# Altium schematic symbol library sch.SchLib: 422 symbols (part 2 of 3)
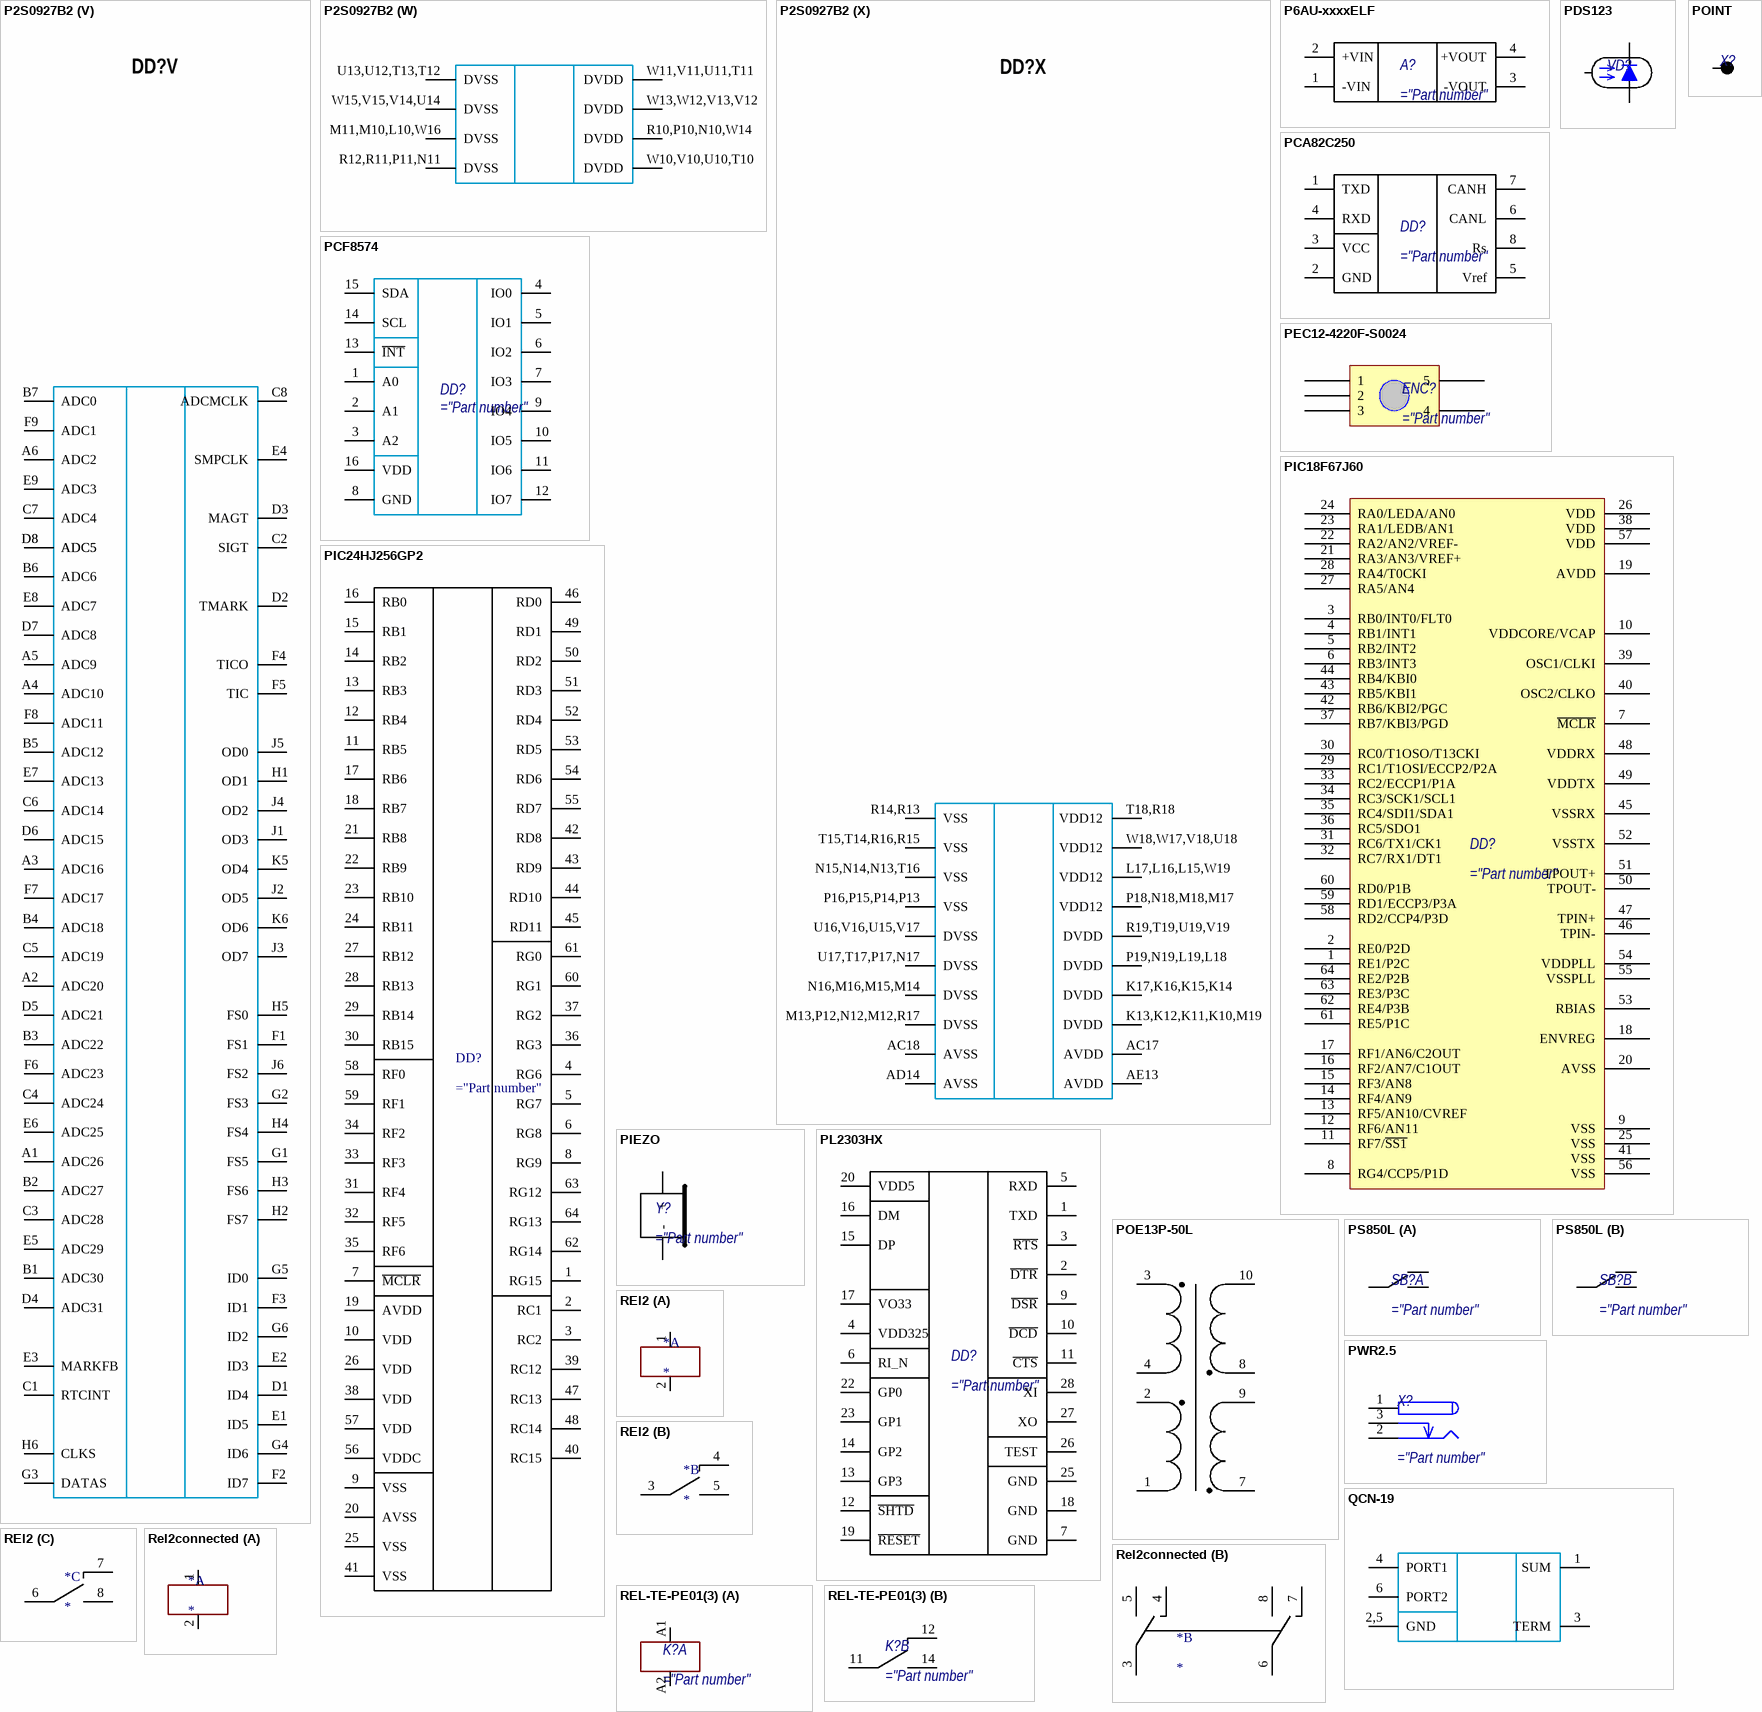
[diagram p35: symbols P2S0927B2 to REL-TE-PE01(3)]

## P2S0927B2
designator DD?
part A pins: AE16 TDO_M "8mA", AE17 ~{TRST_M} "=Soft Reset", AF17 TMS_M, AG16 TDI_M, AG17 TCK_M
part B pins: K28 TDI_S, L24 TDO_S "8mA", L25 TCK_S, L26 TMS_S, L27 ~{TRST_S} "=Soft Reset"
part C pins: A7 XI, A11 XO, A12 XI "12MHz", AH15 XI "10-40MHz", AH16 XO, B8 VDD_RTC, C9 PG, D9 XO, E12 VSS_RTC, F10 VSS_RTC, F11 VDD12_RTC, R24 ~{SRESET} "8mA", R26 ~{MRESET} "8mA", R27 BOOTEN_M, R28 BOOTEN_S, T25 TST, T26 BP_POR, T27 EXTI_M, T28 TST_MDDR, U26 ~{RST_EXT}, U27 CLOCK_EXT "8mA, 50/100/200 MHz", U28 EXTI_S
part D pins: AA23 D25 "8mA", AA24 D22 "8mA", AB23 D18 "8mA", AB24 D20 "8mA", AB25 D29 "8mA", AC19 A14 "8mA", AC20 ~{CS0} "8mA", AC21 ~{ST_CE1} "8mA", AC22 D15 "8mA", AC23 D6 "8mA", AC24 D13 "8mA", AC25 D21 "8mA", AC26 D24 "8mA", AC27 D31 "8mA", AD17 A2 "8mA", AD18 A8 "8mA", AD19 A18 "8mA", AD20 A22 "8mA", AD21 ~{CS1} "8mA", AD22 ~{ST_CE0} "8mA", AD23 D3 "8mA", AD24 DQM1 "8mA", AD25 D12 "8mA", AD26 D23 "8mA", AD27 D26 "8mA", AD28 D30 "8mA", AE18 A6 "8mA", AE19 A12 "8mA", AE20 A16 "8mA", AE21 ~{WE} "8mA", AE22 ~{RAS} "8mA", AE23 ~{ST_CE3} "8mA", AE24 D4 "8mA", AE25 D9 "8mA", AE26 DQM2 "8mA", AE27 D27 "8mA", AE28 D28 "8mA", AF18 A1 "8mA", AF19 A5 "8mA", AF20 A13 "8mA", AF21 A19 "8mA", AF22 A23 "8mA", AF23 CKE "8mA", AF24 D0 "8mA", AF25 D7 "8mA", AF26 D16 "8mA", AF27 D17 "8mA", AF28 DQM3 "8mA", AG18 A4 "8mA", AG19 A7 "8mA", AG20 A11 "8mA", AG21 A17 "8mA", AG22 A21 "8mA", AG23 ~{OE} "8mA", AG24 DQM0 "8mA", AG25 D2 "8mA", AG26 D8 "8mA", AG27 D11 "8mA", AG28 D19 "8mA", AH17 A0 "8mA", AH18 A3 "8mA", AH19 A9 "8mA", AH20 A10 "8mA", AH21 A15 "8mA", AH22 A20 "8mA", AH23 CLKOUT "8mA", AH24 ~{ST_CE2} "8mA", AH25 D1 "8mA", AH26 D5 "8mA", AH27 D10 "8mA", AH28 D14 "8mA"
part E pins: AA2 CKE0, AA3 BA1 "8mA", AA4 ~{CS1_N}, AA5 BA0 "8mA", AA6 ~{WE_N}, AB1 CKE1, AB2 ~{RAS_N}, AB3 ~{CAS_N}, AB4 ~{CS0_N}, AB5 OPEN3, AB6 OPEN2, AC1 A10, AC2 A5, AC3 A7, AC4 A9, AC5 A3, AC6 DQS3, AC7 VREF09, AC8 VREF09, AC9 DQS1, AC10 OPEN1, AC11 DQS0, AC12 OPEN0, AD1 A4, AD2 A12, AD3 A6, AD4 A2, AD5 A0, AD6 DM3, AD7 DQS2, AD8 DM2, AD9 DQ16, AD10 DQ13, AD11 DM1, AD12 DM0, AE1 A8, AE2 A11, AE3 A1, AE4 DQ24, AE5 DQ20, AE6 DQ21, AE7 DQ17, AE8 DQ11, AE9 DQ9, AE10 DQ3, AF1 DQ30, AF2 DQ27, AF3 DQ26, AF4 DQ23, AF5 DQ18, AF6 DQ8, AF7 DQ10, AF8 DQ7, AF9 DQ1, AG1 DQ31, AG2 DQ25, AG3 DQ22, AG4 DQ19, AG5 DQ12, AG6 DQ14, AG7 DQ6, AG8 DQ0, AH1 DQ29, AH2 DQ28, AH3 ~{CK_N}, AH4 CK, AH5 DQ15, AH6 DQ5, AH7 DQ2, AH8 DQ4
part F pins: A20 RNB7 "(PU)", A21 RNB3 "(PU)", A22 ~{WPR6} "8mA", A23 ~{WPR1} "8mA", A24 ~{CE2} "8mA", A25 ALE "8mA", A26 D6 "8mA", A27 D0 "8mA", A28 D10 "8mA", B20 RNB5 "(PU)", B21 ~{WPR7} "8mA", B22 ~{WPR2} "8mA", B23 ~{CE6} "8mA", B24 RNB0 "(PU)", B25 D7 "8mA", B26 D3 "8mA", B27 D12 "8mA", C20 RNB1 "(PU)", C21 ~{WPR3} "8mA", C22 ~{CE5} "8mA", C23 CLE "8mA", C24 ~{CE0} "8mA", C25 D2 "8mA", C26 D11 "8mA", D20 ~{WPR5} "8mA", D21 ~{CE7} "8mA", D22 ~{CE3} "8mA", D23 ~{WPR0} "8mA", D24 ~{CE1} "8mA", D25 D9 "8mA", D26 D15 "8mA", E19 RNB2 "(PU)", E20 ~{WPR4} "8mA", E21 ~{CE4} "8mA", E22 D5 "8mA", E23 D8 "8mA", E24 D1 "8mA", E25 ~{RE} "8mA", F18 RNB6 "(PU)", F19 RNB4 "(PU)", F20 D4 "8mA", F21,F22 DVDD, F23 D13 "8mA", F24 D14 "8mA", G23 ~{WE} "8mA", K18,K19 DVSS
part G pins: K1 ~{CD}, K2 PWR "8mA", K3 CLK "8mA", K4 D0 "8mA", L1 D2 "8mA", L2 CMD, L3 ~{WP}, L4 CMD, L5 D3 "8mA", L6 ~{WP}, M1 ~{CD}, M2 CLK "8mA", M3 D3 "8mA", M4 D0 "8mA", M5 PWR "8mA", M6 D1 "8mA", N1 D1 "8mA", N2 D2 "8mA"
part H pins: N3 RXD2, N4 TXCLK, N5 RXER, N6 COL, P1 RXCLK, P2 CRS, P3 TXD1 "8mA", P4 RXD0, P5 TXD0 "8mA", P6 TXEN "8mA", R1 RXDV, R2 RXD3, R3 TXD3 "8mA", R4 MDIO "8mA", R5 MDC "8mA", R6 TXD2 "8mA", T1 RXD1, T2 TXER "8mA, Reserved"
part I pins: AA1 D5 "8mA", T3 D8 "8mA", T4 D10 "8mA", T5 FP "8mA", T6 CP "8mA", U1 AC "8mA", U2 D0 "8mA", U3 D14 "8mA", U4 D12 "8mA", U5 D1 "8mA", U6 D9 "8mA", V1 LP "8mA", V2 D4 "8mA", V3 D16 "8mA", V4 D7 "8mA", V5 D3 "8mA", V6 D15 "8mA", W1 PWR "8mA", W2 D6 "8mA", W3 D18 "8mA", W4 D13 "8mA", W5 D17 "8mA", W6 D19 "8mA", Y1 D2 "8mA", Y2 D11 "8mA", Y3 D20 "8mA", Y4 D22 "8mA", Y5 D23 "8mA", Y6 D21 "8mA"
part J pins: A8 DP, A9 DN, B9 VBUS, C10 DRVVBUS "8mA", C11 ID, D10,D11 AVSS, E10,E11 AVDD, F12 RREFEXT, F13 AVDD
part K pins: AC13 AVDD, AC14 AVSS, AE11 VREF, AE12 Y-, AF10 Y+, AF11 X-, AG9 X+, AG10 AUX0, AG11 AUX2, AH9 AUX1, AH10 AUX3
part L pins: A10 U1_TXD "4mA", B10 U2_RXD, B11 U0_RXD, B12 ~{U0_DSR}, C12 U1_RXD, C13 ~{U0_RTS} "4mA", D12 U2_TXD "4mA", D13 ~{U0_DTR} "4mA", D14 U0_TXD "4mA", E13 ~{U0_RI}, E14 ~{U0_CTS}, F14 ~{U0_DCD}
part M pins: AG12 PWM "4mA (PD)", R23 GPIO1 "4mA", R25 GPIO0 "4mA"
part N pins: T23 I2S_TX_LRCK "4mA", T24 I2S_SDI, U25 I2S_TX_SCLK "4mA", V26 I2S_MCLK, V27 I2S_RX_LRCK, V28 I2S_SDO "4mA", W28 I2S_RX_SCLK
part O pins: P24 I2C0_SDA "4mA", P25 I2C1_SCL "4mA", P26 I2C0_SCL "4mA", P27 I2C1_SDA "4mA"
part P pins: AA25 SSP0_RxD, AA26 ~{SSP0_OE} "4mA", AA27 ~{SSP1_OE} "4mA", AA28 ~{SSP2_OE} "4mA", AB26 SSP0_CLK "4mA", AB27 SSP1_CLK "4mA", AB28 SSP1_RxD, AC28 ~{SSP0_CTLOE} "4mA", U23 SSP3_FSS "4mA", U24 ~{SSP3_CTLOE} "4mA", V23 SSP2_FSS "4mA", V24 ~{SSP1_CTLOE} "4mA", V25 SSP3_TxD "4mA", W23 SSP1_TxD "4mA", W24 SSP1_FSS "4mA", W25 SSP2_RxD, W26 SSP3_CLK "4mA", W27 ~{SSP3_OE} "4mA", Y23 SSP0_FSS "4mA", Y24 SSP0_TxD "4mA", Y25 SSP2_TxD "4mA", Y26 SSP2_CLK "4mA", Y27 ~{SSP2_CTLOE} "4mA", Y28 SSP3_RxD
part Q pins: AD13 CAN1_TX "8mA", AF12 CAN1_RX, AH11 ~{CAN1_TX_EN} "8mA", M25 CAN2_TX "8mA", N25 ~{CAN2_TX_EN} "8mA", N26 CAN2_RX
part R pins: AC15 KEY_Y3 "8mA", AC16 KEY_X7 "(PU)", AD15 KEY_X3 "(PU)", AD16 KEY_X5 "(PU)", AE14 KEY_Y1 "8mA", AE15 KEY_Y6 "8mA", AF13 KEY_Y0 "8mA", AF14 KEY_Y5 "8mA", AF15 KEY_X1 "(PU)", AF16 KEY_X6 "(PU)", AG13 KEY_Y4 "8mA", AG14 KEY_X0 "(PU)", AG15 KEY_X4 "(PU)", AH12 KEY_Y2 "8mA", AH13 KEY_Y7 "8mA", AH14 KEY_X2 "(PU)"
part S pins: A13 D29 "8mA", A14 D23 "8mA", A15 D19 "8mA", A16 D15 "8mA", A17 D13 "8mA", A18 DQM1 "8mA", A19 D4 "8mA", B13 D31 "8mA", B14 D25 "8mA", B15 D20 "8mA", B16 D16 "8mA", B17 D12 "8mA", B18 D7 "8mA", B19 D2 "8mA", B28 ~{CE1} "8mA", C14 D27 "8mA", C15 D22 "8mA", C16 D18 "8mA", C17 D11 "8mA", C18 D6 "8mA", C19 D1 "8mA", C27 ~{CE3} "8mA", C28 ~{TRAS} "8mA", D15 DQM3 "8mA", D16 D14 "8mA", D17 D9 "8mA", D18 D5 "8mA", D19 D0 "8mA", D27 ~{CE0} "8mA", D28 ~{CS1} "8mA", E15 D28 "8mA", E16 D17 "8mA", E17 D8 "8mA", E18 DQM0 "8mA", E26 CKE "8mA", E27 ~{CS0} "8mA", E28 CLKOUT "8mA", F15 D24 "8mA", F16 D10 "8mA", F17 D3 "8mA", F25 ~{WE} "8mA", F26 A21 "8mA", F27 A18 "8mA", F28 A14 "8mA", G24 ~{CE2} "8mA", G25 A22 "8mA", G26 A17 "8mA", G27 A12 "8mA", G28 A11 "8mA", H23 ~{OE} "8mA", H24 A20 "8mA", H25 A15 "8mA", H26 A10 "8mA", H27 A7 "8mA", H28 A6 "8mA", J23 A23 "8mA", J24 A19 "8mA", J25 A13 "8mA", J26 A8 "8mA", J27 A4 "8mA", J28 A2 "8mA", K23 A16 "8mA", K24 A9 "8mA", K25 A1 "8mA", K26 A3 "8mA", K27 A0 "8mA", L11 D30 "8mA", L12 D26 "8mA", L13 D21 "8mA", L14 DQM2 "8mA", L23 A5 "8mA"
part T pins: L28 U2_RXD, M23 U2_TXD "4mA", M24 U1_TXD "4mA", M26 U1_RXD, M27 U0_RXD, M28 U0_TXD "4mA"
part U pins: N23 DMA1_TCEOT, N24 DMA1_REQ, N27 DMA1_ACK, N28 DMA0_TCEOT, P23 DMA0_ACK, P28 DMA0_REQ
part V pins: A1 ADC26, A2 ADC20, A3 ADC16, A4 ADC10, A5 ADC9, A6 ADC2, B1 ADC30, B2 ADC27, B3 ADC22, B4 ADC18, B5 ADC12, B6 ADC6, B7 ADC0, C1 RTCINT "(PU, SMT)", C2 SIGT "4mA", C3 ADC28, C4 ADC24, C5 ADC19, C6 ADC14, C7 ADC4, C8 ADCMCLK "8mA", D1 ID4, D2 TMARK "12mA", D3 MAGT "4mA", D4 ADC31, D5 ADC21, D6 ADC15, D7 ADC8, D8 ADC5, D8 ADC5, E1 ID5, E2 ID3, E3 MARKFB, E4 SMPCLK "8mA", E5 ADC29, E6 ADC25, E7 ADC13, E8 ADC7, E9 ADC3, F1 FS1 "8mA", F2 ID7, F3 ID1, F4 TICO "8mA", F5 TIC "(PD, SMT)", F6 ADC23, F7 ADC17, F8 ADC11, F9 ADC1, G1 FS5 "8mA", G2 FS3 "8mA", G3 DATAS "12mA", G4 ID6, G5 ID0, G6 ID2, H1 OD1 "8mA", H2 FS7 "8mA", H3 FS6 "8mA", H4 FS4 "8mA", H5 FS0 "8mA", H6 CLKS "12mA", J1 OD3 "8mA", J2 OD5 "8mA", J3 OD7 "8mA", J4 OD2 "8mA", J5 OD0 "8mA", J6 FS2 "8mA", K5 OD4 "8mA", K6 OD6 "8mA"
part W pins: M11,M10,L10,W16 DVSS, R10,P10,N10,W14 DVDD, R12,R11,P11,N11 DVSS, U13,U12,T13,T12 DVSS, W10,V10,U10,T10 DVDD, W11,V11,U11,T11 DVDD, W13,W12,V13,V12 DVDD, W15,V15,V14,U14 DVSS
part X pins: AC17 AVDD, AC18 AVSS, AD14 AVSS, AE13 AVDD, K13,K12,K11,K10,M19 DVDD, K17,K16,K15,K14 DVDD, L17,L16,L15,W19 VDD12, M13,P12,N12,M12,R17 DVSS, N15,N14,N13,T16 VSS, N16,M16,M15,M14 DVSS, P16,P15,P14,P13 VSS, P18,N18,M18,M17 VDD12, P19,N19,L19,L18 DVDD, R14,R13 VSS, R19,T19,U19,V19 DVDD, T15,T14,R16,R15 VSS, T18,R18 VDD12, U16,V16,U15,V17 DVSS, U17,T17,P17,N17 DVSS, W18,W17,V18,U18 VDD12

## P6AU-xxxxELF
designator A?
pins: 1 -VIN, 2 +VIN, 3 -VOUT, 4 +VOUT

## PCA82C250
designator DD?
pins: 1 TXD, 2 GND, 3 VCC, 4 RXD, 5 Vref, 6 CANL, 7 CANH, 8 Rs

## PCF8574
designator DD?
pins: 1 A0, 2 A1, 3 A2, 4 IO0, 5 IO1, 6 IO2, 7 IO3, 8 GND, 9 IO4, 10 IO5, 11 IO6, 12 IO7, 13 ~{INT}, 14 SCL, 15 SDA, 16 VDD

## PDS123
designator VD?
pins: 1, 2, 3

## PEC12-4220F-S0024
designator ENC?
pins: 1, 2, 3, 4, 5
1 alternate drawing of the same symbol

## PIC18F67J60
designator DD?
pins: 1 RE1/P2C, 2 RE0/P2D, 3 RB0/INT0/FLT0, 4 RB1/INT1, 5 RB2/INT2, 6 RB3/INT3, 7 ~{MCLR}, 8 RG4/CCP5/P1D, 9 VSS, 10 VDDCORE/VCAP, 11 RF7/~{SS1}, 12 RF6/AN11, 13 RF5/AN10/CVREF, 14 RF4/AN9, 15 RF3/AN8, 16 RF2/AN7/C1OUT, 17 RF1/AN6/C2OUT, 18 ENVREG, 19 AVDD, 20 AVSS, 21 RA3/AN3/VREF+, 22 RA2/AN2/VREF-, 23 RA1/LEDB/AN1, 24 RA0/LEDA/AN0, 25 VSS, 26 VDD, 27 RA5/AN4, 28 RA4/T0CKI, 29 RC1/T1OSI/ECCP2/P2A, 30 RC0/T1OSO/T13CKI, 31 RC6/TX1/CK1, 32 RC7/RX1/DT1, 33 RC2/ECCP1/P1A, 34 RC3/SCK1/SCL1, 35 RC4/SDI1/SDA1, 36 RC5/SDO1, 37 RB7/KBI3/PGD, 38 VDD, 39 OSC1/CLKI, 40 OSC2/CLKO, 41 VSS, 42 RB6/KBI2/PGC, 43 RB5/KBI1, 44 RB4/KBI0, 45 VSSRX, 46 TPIN-, 47 TPIN+, 48 VDDRX, 49 VDDTX, 50 TPOUT-, 51 TPOUT+, 52 VSSTX, 53 RBIAS, 54 VDDPLL, 55 VSSPLL, 56 VSS, 57 VDD, 58 RD2/CCP4/P3D, 59 RD1/ECCP3/P3A, 60 RD0/P1B, 61 RE5/P1C, 62 RE4/P3B, 63 RE3/P3C, 64 RE2/P2B

## PIC24HJ256GP2
designator DD?
pins: 1 RG15, 2 RC1, 3 RC2, 4 RG6, 5 RG7, 6 RG8, 7 ~{MCLR}, 8 RG9, 9 VSS, 10 VDD, 11 RB5, 12 RB4, 13 RB3, 14 RB2, 15 RB1, 16 RB0, 17 RB6, 18 RB7, 19 AVDD, 20 AVSS, 21 RB8, 22 RB9, 23 RB10, 24 RB11, 25 VSS, 26 VDD, 27 RB12, 28 RB13, 29 RB14, 30 RB15, 31 RF4, 32 RF5, 33 RF3, 34 RF2, 35 RF6, 36 RG3, 37 RG2, 38 VDD, 39 RC12, 40 RC15, 41 VSS, 42 RD8, 43 RD9, 44 RD10, 45 RD11, 46 RD0, 47 RC13, 48 RC14, 49 RD1, 50 RD2, 51 RD3, 52 RD4, 53 RD5, 54 RD6, 55 RD7, 56 VDDC, 57 VDD, 58 RF0, 59 RF1, 60 RG1, 61 RG0, 62 RG14, 63 RG12, 64 RG13

## PIEZO
designator Y?
pins: 1 -, 2 +

## PL2303HX
designator DD?
pins: 1 TXD, 2 ~{DTR}, 3 ~{RTS}, 4 VDD325, 5 RXD, 6 RI_N, 7 GND, 9 ~{DSR}, 10 ~{DCD}, 11 ~{CTS}, 12 ~{SHTD}, 13 GP3, 14 GP2, 15 DP, 16 DM, 17 VO33, 18 GND, 19 ~{RESET}, 20 VDD5, 22 GP0, 23 GP1, 25 GND, 26 TEST, 27 XO, 28 XI
1 alternate drawing of the same symbol

## POE13P-50L
designator DA?
pins: 1, 2, 3, 4, 7, 8, 9, 10

## POINT
designator X?  (no BOM)
pins: 1
2 alternate drawings of the same symbol

## PS850L
designator SB?
part A pins: 1, 2, 3
part B pins: 4, 5, 6

## PWR2.5
designator X?
pins: 1 (power), 2 (power), 3 (power)
1 alternate drawing of the same symbol

## QCN-19
designator DA?
pins: 1 SUM, 2,5 GND, 3 TERM, 4 PORT1, 6 PORT2

## REl2
designator *
footprint USSR relay
part A pins: 1, 2
part B pins: 3 11, 4 12, 5 14
part C pins: 6 11, 7 12, 8 14

## Rel2connected
designator *
part A pins: 1, 2
part B pins: 3 11, 4 12, 5 14, 6 11, 7 12, 8 14

## REL-TE-PE01(3)
designator K?
part A pins: A1 1, A2 2
part B pins: 11, 12, 14
1 alternate drawing of the same symbol

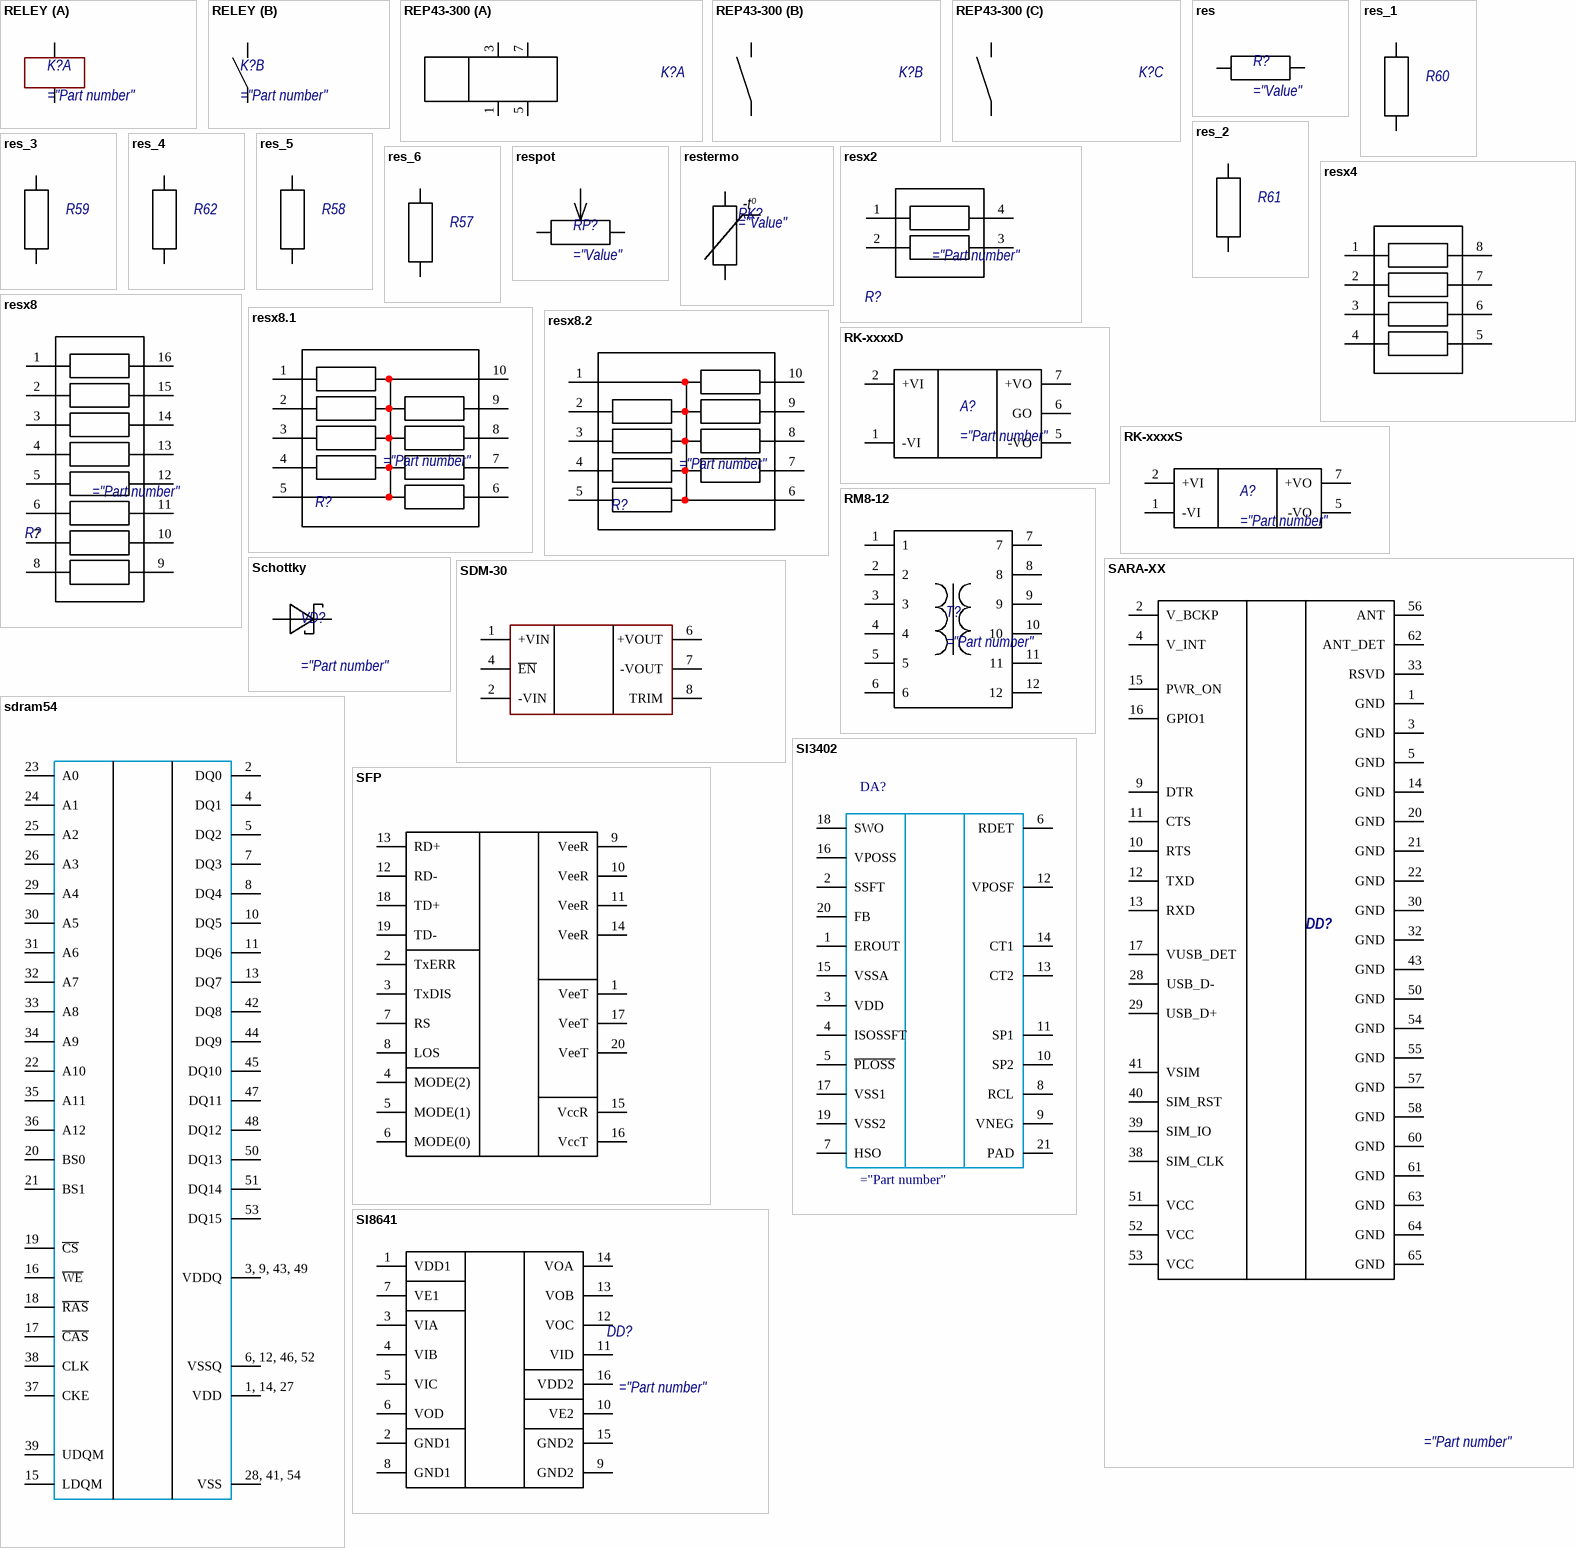
[diagram p22: symbols RELEY to SI8641]

## RELEY
designator K?
part A pins: 1, 2
part B pins: 3, 4

## REP43-300
designator K?
part A pins: 1 VDD, 3 VDD, 5 VDD, 7 VDD
part B pins: 21, 22
part C pins: 23, 24

## res
designator R?
footprint RES2032-1400X350 (Resistor, Axial, Pad spacing 20.32mm - Body Lengh 14mm X Body Diameter 3.5mm)
pins: 1, 2

## res_1
designator R60, comment 120R  (value not drawn)
Р1-12-0,1-120 Ом ±5%, 0,1 SMD 0603; Power: 0,1; Component Note: 0603 120R 0,05; TU: АЛЯР.434110.005 ТУ; Part Number: Р1-12-0,1-120 Ом ±5%; Package: SMD 0603; Value: 120R; Tolerance: 5%; Type: Р1-12
signal-integrity model Res
footprint C0603R
pins: 1, 2

## res_2
designator R61, comment 590R  (value not drawn)
Р1-12-0,1-590 Ом ±1%, 0,1 SMD 0603; Power: 0,1; Component Note: 0603 590R 1%; TU: АЛЯР.434110.005 ТУ; Part Number: Р1-12-0,1-590 Ом ±1%; Package: SMD 0603; Value: 590R; Tolerance: 1%; Type: Р1-12
signal-integrity model Res
footprint C0603R
pins: 1, 2

## res_3
designator R59, comment 590R  (value not drawn)
Р1-12-0,1-590 Ом ±1%, 0,1 SMD 0603; Power: 0,1; Component Note: 0603 590R 1%; TU: АЛЯР.434110.005 ТУ; Part Number: Р1-12-0,1-590 Ом ±1%; Package: SMD 0603; Value: 590R; Tolerance: 1%; Type: Р1-12
signal-integrity model Res
footprint C0603R
pins: 1, 2

## res_4
designator R62, comment 120R  (value not drawn)
Р1-12-0,1-120 Ом ±5%, 0,1 SMD 0603; Power: 0,1; Component Note: 0603 120R 0,05; TU: АЛЯР.434110.005 ТУ; Part Number: Р1-12-0,1-120 Ом ±5%; Package: SMD 0603; Value: 120R; Tolerance: 5%; Type: Р1-12
signal-integrity model Res
footprint C0603R
pins: 1, 2

## res_5
designator R58, comment 10k  (value not drawn)
Р1-12-0,1-10 кОм ±5%, 0,1 SMD 0603; Power: 0,1; Component Note: 0603 10k 0,05; TU: АЛЯР.434110.005 ТУ; Part Number: Р1-12-0,1-10 кОм ±5%; Package: SMD 0603; Value: 10k; Tolerance: 5%; Type: Р1-12
signal-integrity model Res
footprint C0603R
pins: 1, 2

## res_6
designator R57, comment 10k  (value not drawn)
Р1-12-0,1-10 кОм ±5%, 0,1 SMD 0603; Power: 0,1; Component Note: 0603 10k 0,05; TU: АЛЯР.434110.005 ТУ; Part Number: Р1-12-0,1-10 кОм ±5%; Package: SMD 0603; Value: 10k; Tolerance: 5%; Type: Р1-12
signal-integrity model Res
footprint C0603R
pins: 1, 2

## respot
designator RP?
pins: 1, 2, 3
1 alternate drawing of the same symbol

## restermo
designator RK?
pins: 1, 2
text: o; -t

## resx2
designator R?
pins: 1, 2, 3, 4

## resx4
designator R?
pins: 1, 2, 3, 4, 5, 6, 7, 8

## resx8
designator R?
pins: 1, 2, 3, 4, 5, 6, 7, 8, 9, 10, 11, 12, 13, 14, 15, 16

## resx8.1
designator R?
pins: 1, 2, 3, 4, 5, 6, 7, 8, 9, 10
1 alternate drawing of the same symbol

## resx8.2
designator R?
pins: 1, 2, 3, 4, 5, 6, 7, 8, 9, 10
1 alternate drawing of the same symbol

## RK-xxxxD
designator A?
pins: 1 -VI, 2 +VI, 5 -VO, 6 GO, 7 +VO

## RK-xxxxS
designator A?
pins: 1 -VI, 2 +VI, 5 -VO, 7 +VO

## RM8-12
designator T?
pins: 1 "PA1/USART2_RTS/ADC1_IN1/TIM2_CH2", 2 "PA1/USART2_RTS/ADC1_IN1/TIM2_CH2", 3 "PA1/USART2_RTS/ADC1_IN1/TIM2_CH2", 4 "PA1/USART2_RTS/ADC1_IN1/TIM2_CH2", 5 "PA1/USART2_RTS/ADC1_IN1/TIM2_CH2", 6 "PA1/USART2_RTS/ADC1_IN1/TIM2_CH2", 7 "PA1/USART2_RTS/ADC1_IN1/TIM2_CH2", 8 "PA1/USART2_RTS/ADC1_IN1/TIM2_CH2", 9 "PA1/USART2_RTS/ADC1_IN1/TIM2_CH2", 10 "PA1/USART2_RTS/ADC1_IN1/TIM2_CH2", 11 "PA1/USART2_RTS/ADC1_IN1/TIM2_CH2", 12 "PA1/USART2_RTS/ADC1_IN1/TIM2_CH2"

## SARA-XX
designator DD?
pins: 1 GND, 2 V_BCKP, 3 GND, 4 V_INT, 5 GND, 9 DTR, 10 RTS, 11 CTS, 12 TXD, 13 RXD, 14 GND, 15 PWR_ON, 16 GPIO1, 17 VUSB_DET, 20 GND, 21 GND, 22 GND, 28 USB_D-, 29 USB_D+, 30 GND, 32 GND, 33 RSVD, 38 SIM_CLK, 39 SIM_IO, 40 SIM_RST, 41 VSIM, 43 GND, 50 GND, 51 VCC, 52 VCC, 53 VCC, 54 GND, 55 GND, 56 ANT, 57 GND, 58 GND, 60 GND, 61 GND, 62 ANT_DET, 63 GND, 64 GND, 65 GND

## Schottky
designator VD?
pins: A, C

## SDM-30
designator DA?
pins: 1 +VIN, 2 -VIN, 4 ~{EN}, 6 +VOUT, 7 -VOUT, 8 TRIM

## sdram54
designator DA?
pins: 1, 14, 27 VDD, 2 DQ0, 3, 9, 43, 49 VDDQ, 4 DQ1, 5 DQ2, 6, 12, 46, 52 VSSQ, 7 DQ3, 8 DQ4, 10 DQ5, 11 DQ6, 13 DQ7, 15 LDQM, 16 ~{WE}, 17 ~{CAS}, 18 ~{RAS}, 19 ~{CS}, 20 BS0, 21 BS1, 22 A10, 23 A0, 24 A1, 25 A2, 26 A3, 28, 41, 54 VSS, 29 A4, 30 A5, 31 A6, 32 A7, 33 A8, 34 A9, 35 A11, 36 A12, 37 CKE, 38 CLK, 39 UDQM, 42 DQ8, 44 DQ9, 45 DQ10, 47 DQ11, 48 DQ12, 50 DQ13, 51 DQ14, 53 DQ15

## SFP
designator DA?
pins: 1 VeeT, 2 TxERR, 3 TxDIS, 4 MODE(2), 5 MODE(1), 6 MODE(0), 7 RS, 8 LOS, 9 VeeR, 10 VeeR, 11 VeeR, 12 RD-, 13 RD+, 14 VeeR, 15 VccR, 16 VccT, 17 VeeT, 18 TD+, 19 TD-, 20 VeeT

## SI3402
designator DA?
pins: 1 EROUT, 2 SSFT, 3 VDD, 4 ISOSSFT, 5 ~{PLOSS}, 6 RDET, 7 HSO, 8 RCL, 9 VNEG, 10 SP2, 11 SP1, 12 VPOSF, 13 CT2, 14 CT1, 15 VSSA, 16 VPOSS, 17 VSS1, 18 SWO, 19 VSS2, 20 FB, 21 PAD

## SI8641
designator DD?
pins: 1 VDD1, 2 GND1, 3 VIA, 4 VIB, 5 VIC, 6 VOD, 7 VE1, 8 GND1, 9 GND2, 10 VE2, 11 VID, 12 VOC, 13 VOB, 14 VOA, 15 GND2, 16 VDD2

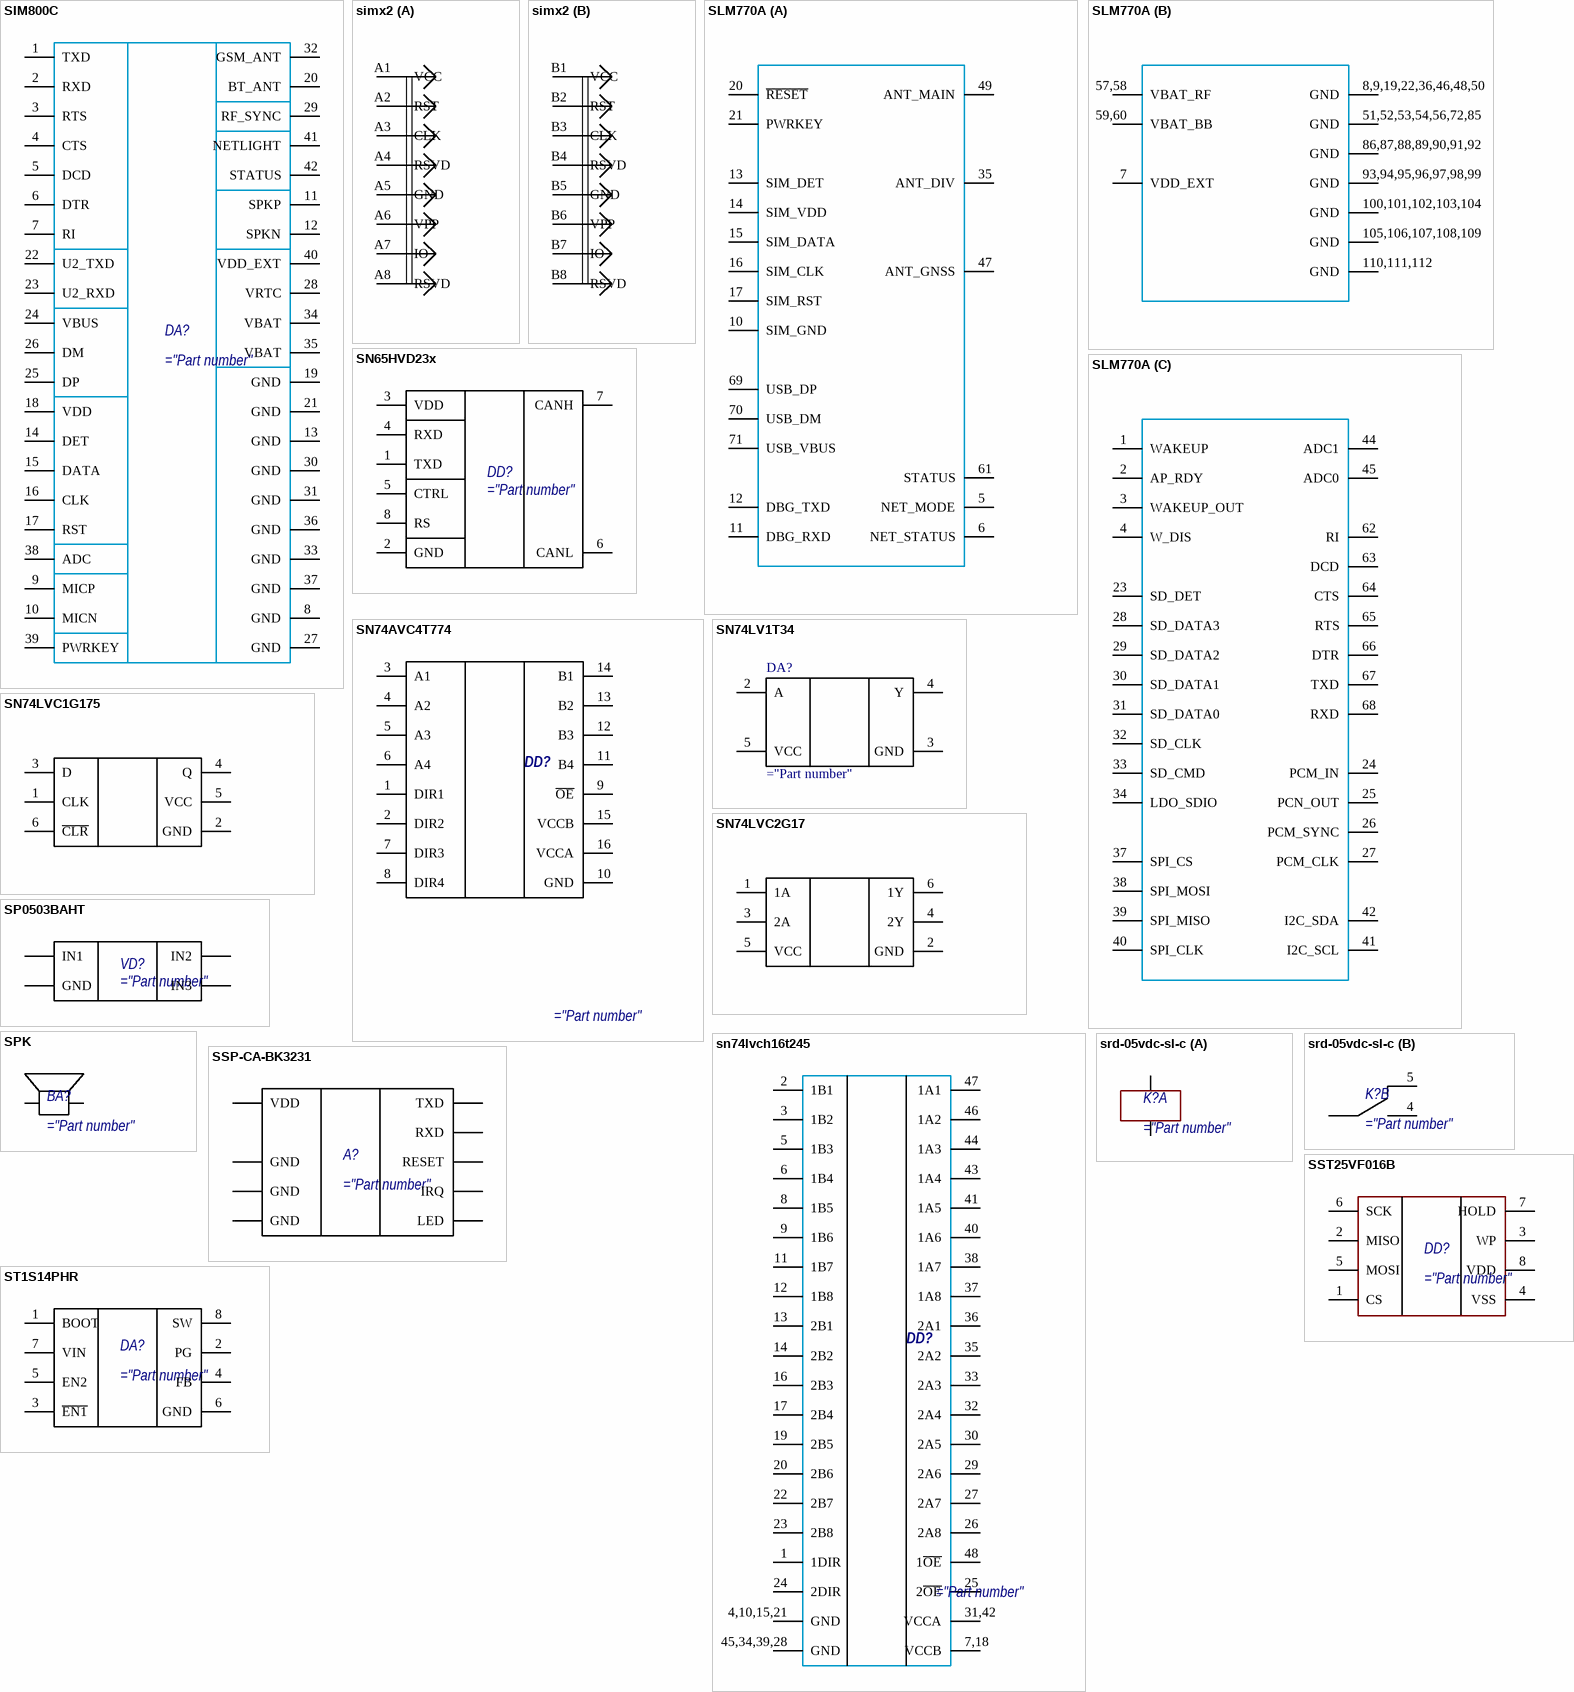
[diagram p23: symbols SIM800C to ST1S14PHR]

## SIM800C
designator DA?
pins: 1 TXD, 2 RXD, 3 RTS, 4 CTS, 5 DCD, 6 DTR, 7 RI, 8 GND, 9 MICP, 10 MICN, 11 SPKP, 12 SPKN, 13 GND, 14 DET, 15 DATA, 16 CLK, 17 RST, 18 VDD, 19 GND, 20 BT_ANT, 21 GND, 22 U2_TXD, 23 U2_RXD, 24 VBUS, 25 DP, 26 DM, 27 GND, 28 VRTC, 29 RF_SYNC, 30 GND, 31 GND, 32 GSM_ANT, 33 GND, 34 VBAT, 35 VBAT, 36 GND, 37 GND, 38 ADC, 39 PWRKEY, 40 VDD_EXT, 41 NETLIGHT, 42 STATUS

## simx2
designator DA?
part A pins: A1 VCC, A2 RST, A3 CLK, A4 RSVD, A5 GND, A6 VPP, A7 IO, A8 RSVD
part B pins: B1 VCC, B2 RST, B3 CLK, B4 RSVD, B5 GND, B6 VPP, B7 IO, B8 RSVD

## SLM770A
designator DA?
part A pins: 5 NET_MODE, 6 NET_STATUS, 10 SIM_GND, 11 DBG_RXD, 12 DBG_TXD, 13 SIM_DET, 14 SIM_VDD, 15 SIM_DATA, 16 SIM_CLK, 17 SIM_RST, 20 ~{RESET}, 21 PWRKEY, 35 ANT_DIV, 47 ANT_GNSS, 49 ANT_MAIN, 61 STATUS, 69 USB_DP, 70 USB_DM, 71 USB_VBUS
part B pins: 7 VDD_EXT, 8,9,19,22,36,46,48,50 GND, 51,52,53,54,56,72,85 GND, 57,58 VBAT_RF, 59,60 VBAT_BB, 86,87,88,89,90,91,92 GND, 93,94,95,96,97,98,99 GND, 100,101,102,103,104 GND, 105,106,107,108,109 GND, 110,111,112 GND
part C pins: 1 WAKEUP, 2 AP_RDY, 3 WAKEUP_OUT, 4 W_DIS, 23 SD_DET, 24 PCM_IN, 25 PCN_OUT, 26 PCM_SYNC, 27 PCM_CLK, 28 SD_DATA3, 29 SD_DATA2, 30 SD_DATA1, 31 SD_DATA0, 32 SD_CLK, 33 SD_CMD, 34 LDO_SDIO, 37 SPI_CS, 38 SPI_MOSI, 39 SPI_MISO, 40 SPI_CLK, 41 I2C_SCL, 42 I2C_SDA, 44 ADC1, 45 ADC0, 62 RI, 63 DCD, 64 CTS, 65 RTS, 66 DTR, 67 TXD, 68 RXD

## SN65HVD23x
designator DD?
pins: 1 TXD, 2 GND, 3 VDD, 4 RXD, 5 CTRL, 6 CANL, 7 CANH, 8 RS

## SN74AVC4T774
designator DD?
pins: 1 DIR1, 2 DIR2, 3 A1, 4 A2, 5 A3, 6 A4, 7 DIR3, 8 DIR4, 9 ~{OE}, 10 GND, 11 B4, 12 B3, 13 B2, 14 B1, 15 VCCB, 16 VCCA

## SN74LV1T34
designator DA?
pins: 2 A, 3 GND, 4 Y, 5 VCC

## SN74LVC1G175
designator DA?
pins: 1 CLK, 2 GND, 3 D, 4 Q, 5 VCC, 6 ~{CLR}

## SN74LVC2G17
designator DA?
pins: 1 1A, 2 GND, 3 2A, 4 2Y, 5 VCC, 6 1Y

## sn74lvch16t245
designator DD?
pins: 1 1DIR, 2 1B1, 3 1B2, 4,10,15,21 GND, 5 1B3, 6 1B4, 7,18 VCCB, 8 1B5, 9 1B6, 11 1B7, 12 1B8, 13 2B1, 14 2B2, 16 2B3, 17 2B4, 19 2B5, 20 2B6, 22 2B7, 23 2B8, 24 2DIR, 25 2~{OE}, 26 2A8, 27 2A7, 29 2A6, 30 2A5, 31,42 VCCA, 32 2A4, 33 2A3, 35 2A2, 36 2A1, 37 1A8, 38 1A7, 40 1A6, 41 1A5, 43 1A4, 44 1A3, 45,34,39,28 GND, 46 1A2, 47 1A1, 48 1~{OE}

## SP0503BAHT
designator VD?
pins: 1 GND, 2 IN1, 3 IN2, 4 IN3

## SPK
designator BA?
signal-integrity model Res
pins: 1, 2

## srd-05vdc-sl-c
designator K?
part A pins: 1, 2
part B pins: 3, 4, 5

## SSP-CA-BK3231
designator A?
pins: 1 TXD, 2 RXD, 11 RESET, 12 VDD, 13 GND, 16 LED, 21 GND, 22 GND, 25 IRQ

## SST25VF016B
designator DD?
pins: 1 CS, 2 MISO, 3 WP, 4 VSS, 5 MOSI, 6 SCK, 7 HOLD, 8 VDD

## ST1S14PHR
designator DA?
pins: 1 BOOT, 2 PG, 3 ~{EN1}, 4 FB, 5 EN2, 6 GND, 7 VIN, 8 SW

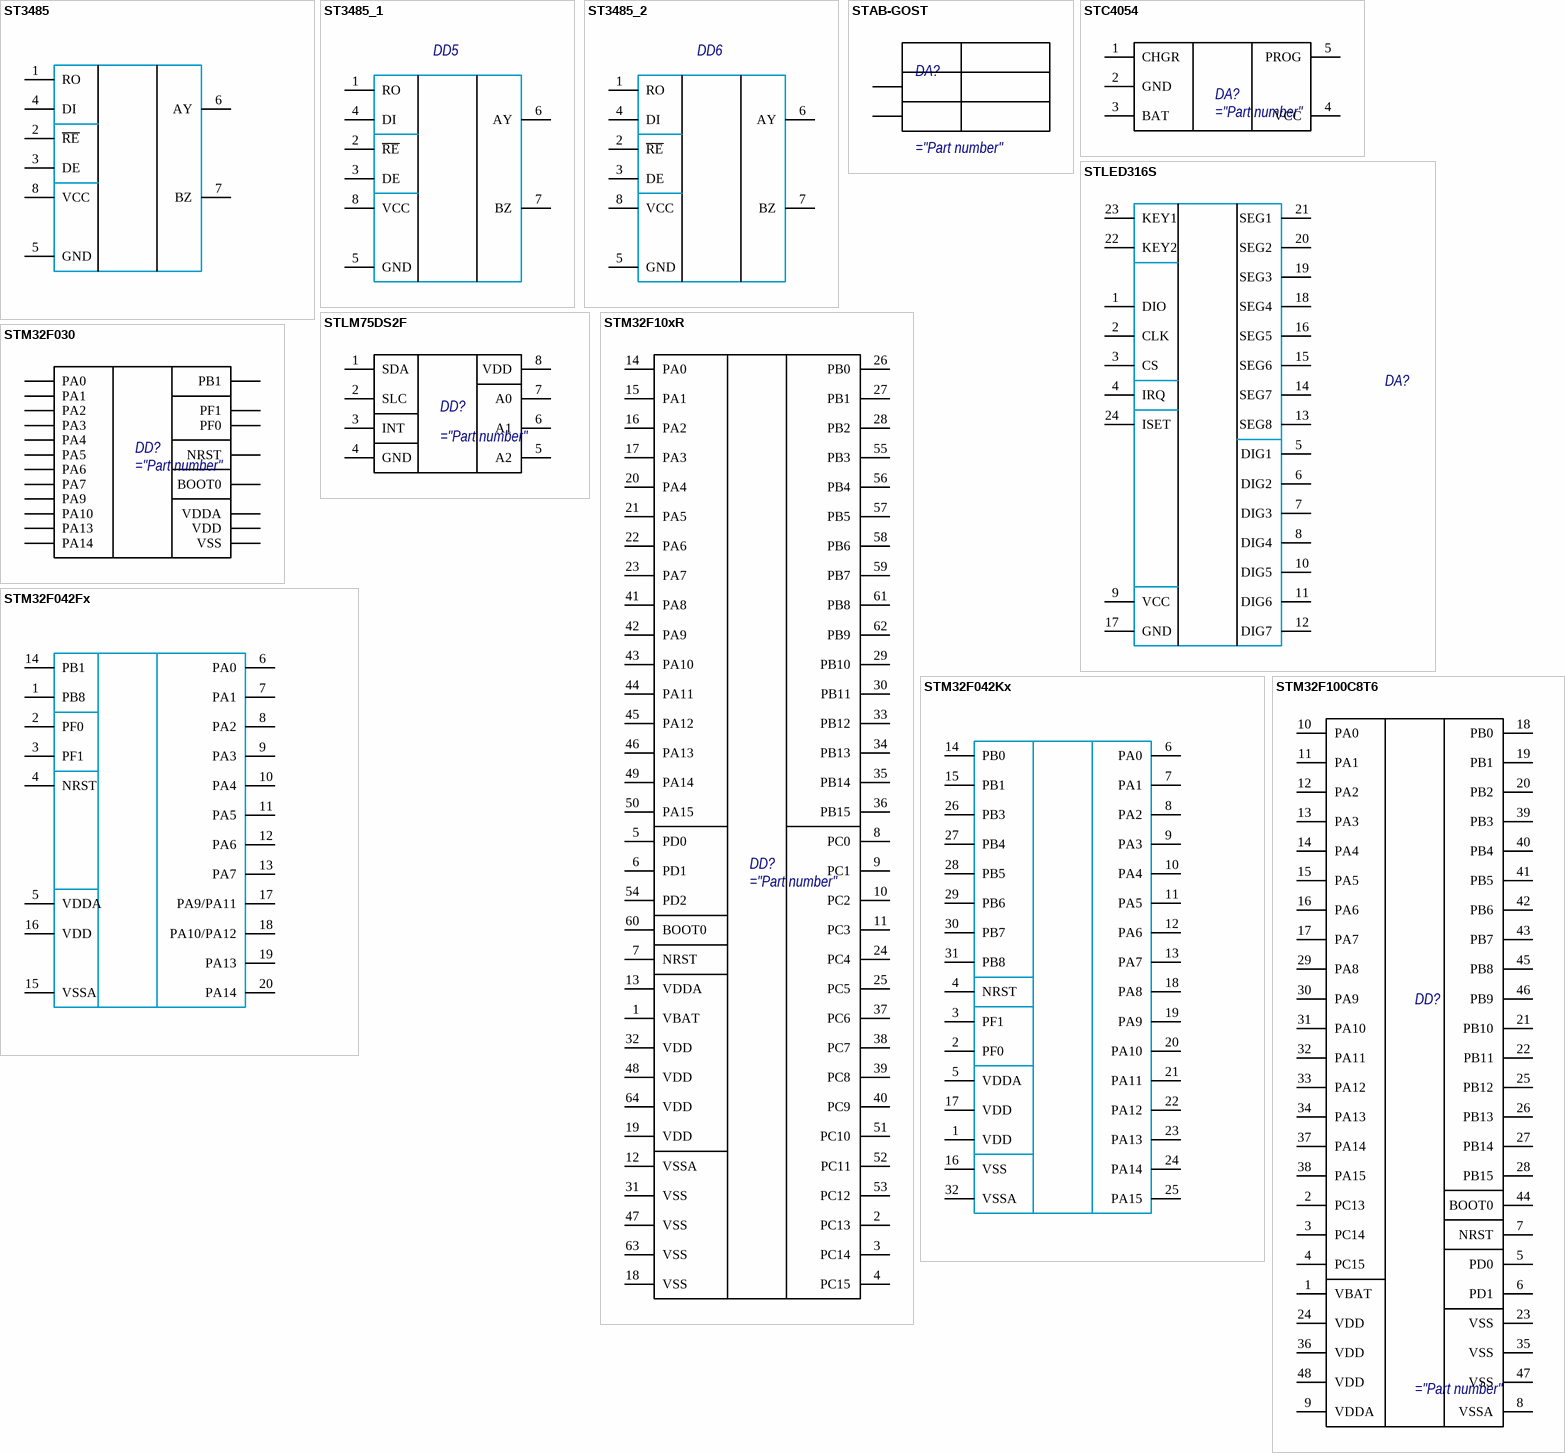
[diagram p24: symbols ST3485 to STM32F100C8T6]

## ST3485
designator DD?
pins: 1 RO, 2 ~{RE}, 3 DE, 4 DI, 5 GND, 6 AY, 7 BZ, 8 VCC

## ST3485_1
designator DD5, comment GW3485S8D  (value not drawn)
Chanel: 1; Tmin: -40; Tmax: 125; Component Note: SO-8; Part Number: GW3485S8D; Package: SO-8; Type: RS232; ComponentLink1Description: Datasheet
footprint SO-8
pins: 1 RO, 2 ~{RE}, 3 DE, 4 DI, 5 GND, 6 AY, 7 BZ, 8 VCC

## ST3485_2
designator DD6, comment GW3485S8D  (value not drawn)
Chanel: 1; Tmin: -40; Tmax: 125; Component Note: SO-8; Part Number: GW3485S8D; Package: SO-8; Type: RS232; ComponentLink1Description: Datasheet
footprint SO-8
pins: 1 RO, 2 ~{RE}, 3 DE, 4 DI, 5 GND, 6 AY, 7 BZ, 8 VCC

## STAB-GOST
designator DA?
footprint PCBComponent_1
pins: 1 +12V, 2 GND

## STC4054
designator DA?
pins: 1 CHGR, 2 GND, 3 BAT, 4 VCC, 5 PROG

## STLED316S
designator DA?
pins: 1 DIO, 2 CLK, 3 CS, 4 IRQ, 5 DIG1, 6 DIG2, 7 DIG3, 8 DIG4, 9 VCC, 10 DIG5, 11 DIG6, 12 DIG7, 13 SEG8, 14 SEG7, 15 SEG6, 16 SEG5, 17 GND, 18 SEG4, 19 SEG3, 20 SEG2, 21 SEG1, 22 KEY2, 23 KEY1, 24 ISET

## STLM75DS2F
designator DD?
pins: 1 SDA, 2 SLC, 3 INT, 4 GND, 5 A2, 6 A1, 7 A0, 8 VDD

## STM32F10xR
designator DD?
pins: 1 VBAT, 2 PC13 "PC13-TAMPER-RTC/PC13/TAMPER-RTC", 3 PC14 "PC14-OSC32_IN/PC14/OSC32_IN", 4 PC15 "PC15-OSC32_OUT/PC15/OSC32_OUT", 5 PD0 "PD0/OSC_IN/CAN_RX", 6 PD1 "PD1/OSC_OUT/CAN_TX", 7 NRST, 8 PC0 "PC0/ADC123_IN10", 9 PC1 "PC1/ADC123_IN11", 10 PC2 "PC2/ADC123_IN12", 11 PC3 "PC3/ADC123_IN13", 12 VSSA, 13 VDDA, 14 PA0 "PA0-WKUP/PA0/WKUP/USART2_CTS/ADC123_IN0/TIM2_CH1_ETR/TIM5_CH1/TIM8_ETR", 15 PA1 "PA1/USART2_RTS/ADC123_IN1/TIM5_CH2/TIM2_CH2", 16 PA2 "PA2/USART2_TX/TIM5_CH3/ADC123_IN2/TIM2_CH3", 17 PA3 "PA3/USART2_RX/TIM5_CH4/ADC123_IN3/TIM2_CH4", 18 VSS, 19 VDD "VDD_4", 20 PA4 "PA4/SPI1_NSS/USART2_CK/DAC_OUT1/ADC12_IN4", 21 PA5 "PA5/SPI1_SCK/DAC_OUT2/ADC12_IN5", 22 PA6 "PA6/SPI1_MISO/TIM8_BKIN/ADC12_IN6/TIM3_CH1/TIM1_BKIN", 23 PA7 "PA7/SPI1_MOSI/TIM8_CH1N/ADC12_IN7/TIM3_CH2/TIM1_CH1N", 24 PC4 "PC4/ADC12_IN14", 25 PC5 "PC5/ADC12_IN15", 26 PB0 "PB0/ADC12_IN8/TIM3_CH3/TIM8_CH2N/TIM1_CH2N", 27 PB1 "PB1/ADC12_IN9/TIM3_CH4/TIM8_CH3N/TIM1_CH3N", 28 PB2 "PB2/BOOT1", 29 PB10 "PB10/I2C2_SCL/USART3_TX/TIM2_CH3", 30 PB11 "PB11/I2C2_SDA/USART3_RX/TIM2_CH4", 31 VSS, 32 VDD "VDD_1", 33 PB12 "PB12/SPI2_NSS/I2S2_WS/I2C2_SMBA/USART3_CK/TIM1_BKIN", 34 PB13 "PB13/SPI2_SCK/I2S2_CK/USART3_CTS/TIM1_CH1N", 35 PB14 "PB14/SPI2_MISO/TIM1_CH2N/USART3_RTS", 36 PB15 "PB15/SPI2_MOSI/I2S2_SD/TIM1_CH3N", 37 PC6 "PC6/I2S2_MCK/TIM8_CH1/SDIO_D6/TIM3_CH1", 38 PC7 "PC7/I2S3_MCK/TIM8_CH2/SDIO_D7/TIM3_CH2", 39 PC8 "PC8/TIM8_CH3/SDIO_D0/TIM3_CH3", 40 PC9 "PC9/TIM8_CH4/SDIO_D1/TIM3_CH4", 41 PA8 "PA8/USART1_CK/TIM1_CH1/MCO", 42 PA9 "PA9/USART1_TX/TIM1_CH2", 43 PA10 "PA10/USART1_RX/TIM1_CH3", 44 PA11 "PA11/USART1_CTS/USBDM/CAN_RX/TIM1_CH4", 45 PA12 "PA12/USART1_RTS/USBDP/CAN_TX/TIM1_ETR", 46 PA13 "PA13/JTMS-SWDIO", 47 VSS, 48 VDD "VDD_2", 49 PA14 "PA14/JTCK-SWCLK", 50 PA15 "PA15/JTDI/SPI3_NSS/I2S3_WS/TIM2_CH1_ETR/SPI1_NSS", 51 PC10 "PC10/UART4_TX/SDIO_D2/USART3_TX", 52 PC11 "PC11/UART4_RX/SDIO_D3/USART3_RX", 53 PC12 "PC12/UART5_TX/SDIO_CK/USART3_CK", 54 PD2 "PD2/TIM3_ETR/UART5_RX/SDIO_CMD", 55 PB3 "PB3/JTDO/SPI3_SCK/I2S3_CK/TRACESWO/TIM2_CH2/SPI1_SCK", 56 PB4 "PB4/NJTRST/SPI3_MISO/TIM3_CH1/SPI1_MISO", 57 PB5 "PB5/I2C1_SMBA/SPI3_MOSI/I2S3_SD/TIM3_CH2/SPI1_MOSI", 58 PB6 "PB6/I2C1_SCL/TIM4_CH1/USART1_TX", 59 PB7 "PB7/I2C1_SDA/TIM4_CH2/USART1_RX", 60 BOOT0, 61 PB8 "PB8/TIM4_CH3/SDIO_D4/I2C1_SCL/CAN_RX", 62 PB9 "PB9/TIM4_CH4/SDIO_D5/I2C1_SDA/CAN_TX", 63 VSS, 64 VDD "VDD_3"

## STM32F030
designator DD?
pins: 1 BOOT0, 2 PF0, 3 PF1, 4 NRST, 5 VDDA, 6 PA0, 7 PA1, 8 PA2, 9 PA3, 10 PA4, 11 PA5, 12 PA6, 13 PA7, 14 PB1, 15 VSS, 16 VDD, 17 PA9, 18 PA10, 19 PA13, 20 PA14
1 alternate drawing of the same symbol

## STM32F042Fx
designator DD?
pins: 1 PB8, 2 PF0, 3 PF1, 4 NRST, 5 VDDA, 6 PA0, 7 PA1, 8 PA2, 9 PA3, 10 PA4, 11 PA5, 12 PA6, 13 PA7, 14 PB1, 15 VSSA, 16 VDD, 17 PA9/PA11, 18 PA10/PA12, 19 PA13, 20 PA14

## STM32F042Kx
designator DD?
pins: 1 VDD, 2 PF0, 3 PF1, 4 NRST, 5 VDDA, 6 PA0, 7 PA1, 8 PA2, 9 PA3, 10 PA4, 11 PA5, 12 PA6, 13 PA7, 14 PB0, 15 PB1, 16 VSS, 17 VDD, 18 PA8, 19 PA9, 20 PA10, 21 PA11, 22 PA12, 23 PA13, 24 PA14, 25 PA15, 26 PB3, 27 PB4, 28 PB5, 29 PB6, 30 PB7, 31 PB8, 32 VSSA

## STM32F100C8T6
designator DD?
pins: 1 VBAT, 2 PC13 "PC13-TAMPER-RTC/PC13/TAMPER-RTC", 3 PC14 "PC14-OSC32_IN/PC14/OSC32_IN", 4 PC15 "PC15-OSC32_OUT/PC15/OSC32_OUT", 5 PD0 "PD0/OSC_IN", 6 PD1 "PD1/OSC_OUT", 7 NRST, 8 VSSA, 9 VDDA, 10 PA0 "PA0-WKUP/PA0/WKUP/USART2_CTS/ADC1_IN0/TIM2_CH1_ETR", 11 PA1 "PA1/USART2_RTS/ADC1_IN1/TIM2_CH2", 12 PA2 "PA2/USART2_TX/ADC1_IN2/TIM2_CH3/TIM15_CH1", 13 PA3 "PA3/USART2_RX/ADC1_IN3/TIM2_CH4/TIM15_CH2", 14 PA4 "PA4/SPI1_NSS/ADC1_IN4/USART2_CK/DAC1_OUT", 15 PA5 "PA5/SPI1_SCK/ADC1_IN5/DAC2_OUT", 16 PA6 "PA6/SPI1_MISO/ADC1_IN6/TIM3_CH1/TIM1_BKIN/TIM16_CH1", 17 PA7 "PA7/SPI1_MOSI/ADC1_IN7/TIM3_CH2/TIM1_CH1N/TIM17_CH1", 18 PB0 "PB0/ADC1_IN8/TIM3_CH3/TIM1_CH2N", 19 PB1 "PB1/ADC1_IN9/TIM3_CH4/TIM1_CH3N", 20 PB2 "PB2/BOOT1", 21 PB10 "PB10/I2C2_SCL/USART3_TX/TIM2_CH3/HDMI_CEC", 22 PB11 "PB11/I2C2_SDA/USART3_RX/TIM2_CH4", 23 VSS "VSS_1", 24 VDD "VDD_1", 25 PB12 "PB12/SPI2_NSS/I2C2_SMBA/TIM1_BKIN/USART3_CK", 26 PB13 "PB13/SPI2_SCK/TIM1_CH1N/USART3_CTS", 27 PB14 "PB14/SPI2_MISO/TIM1_CH2N/USART3_RTS/TIM15_CH1", 28 PB15 "PB15/SPI2_MOSI/TIM1_CH3N/TIM15_CH1N/TIM15_CH2", 29 PA8 "PA8/USART1_CK/MCO/TIM1_CH1", 30 PA9 "PA9/USART1_TX/TIM1_CH2/TIM15_BKIN", 31 PA10 "PA10/USART1_RX/TIM1_CH3/TIM17_BKIN", 32 PA11 "PA11/USART1_CTS/TIM1_CH4", 33 PA12 "PA12/USART1_RTS/TIM1_ETR", 34 PA13 "PA13/JTMS-SWDIO", 35 VSS "VSS_2", 36 VDD "VDD_2", 37 PA14 "PA14/JTCK/SWCLK", 38 PA15 "PA15/JTDI/TIM2_CH1_ETR/SPI1_NSS", 39 PB3 "PB3/JTDO/TIM2_CH2/TRACESWO/SPI1_SCK", 40 PB4 "PB4/NJTRST/TIM3_CH1/SPI1_MISO", 41 PB5 "PB5/I2C1_SMBA/TIM16_BKIN/TIM3_CH2/SPI1_MOSI", 42 PB6 "PB6/I2C1_SCL/TIM4_CH1/TIM16_CH1N/USART1_TX", 43 PB7 "PB7/I2C1_SDA/TIM17_CH1N/TIM4_CH2/USART1_RX", 44 BOOT0, 45 PB8 "PB8/TIM4_CH3/TIM16_CH1/CEC/I2C1_SCL", 46 PB9 "PB9/TIM4_CH4/TIM17_CH1/I2C1_SDA", 47 VSS "VSS_3", 48 VDD "VDD_3"
1 alternate drawing of the same symbol

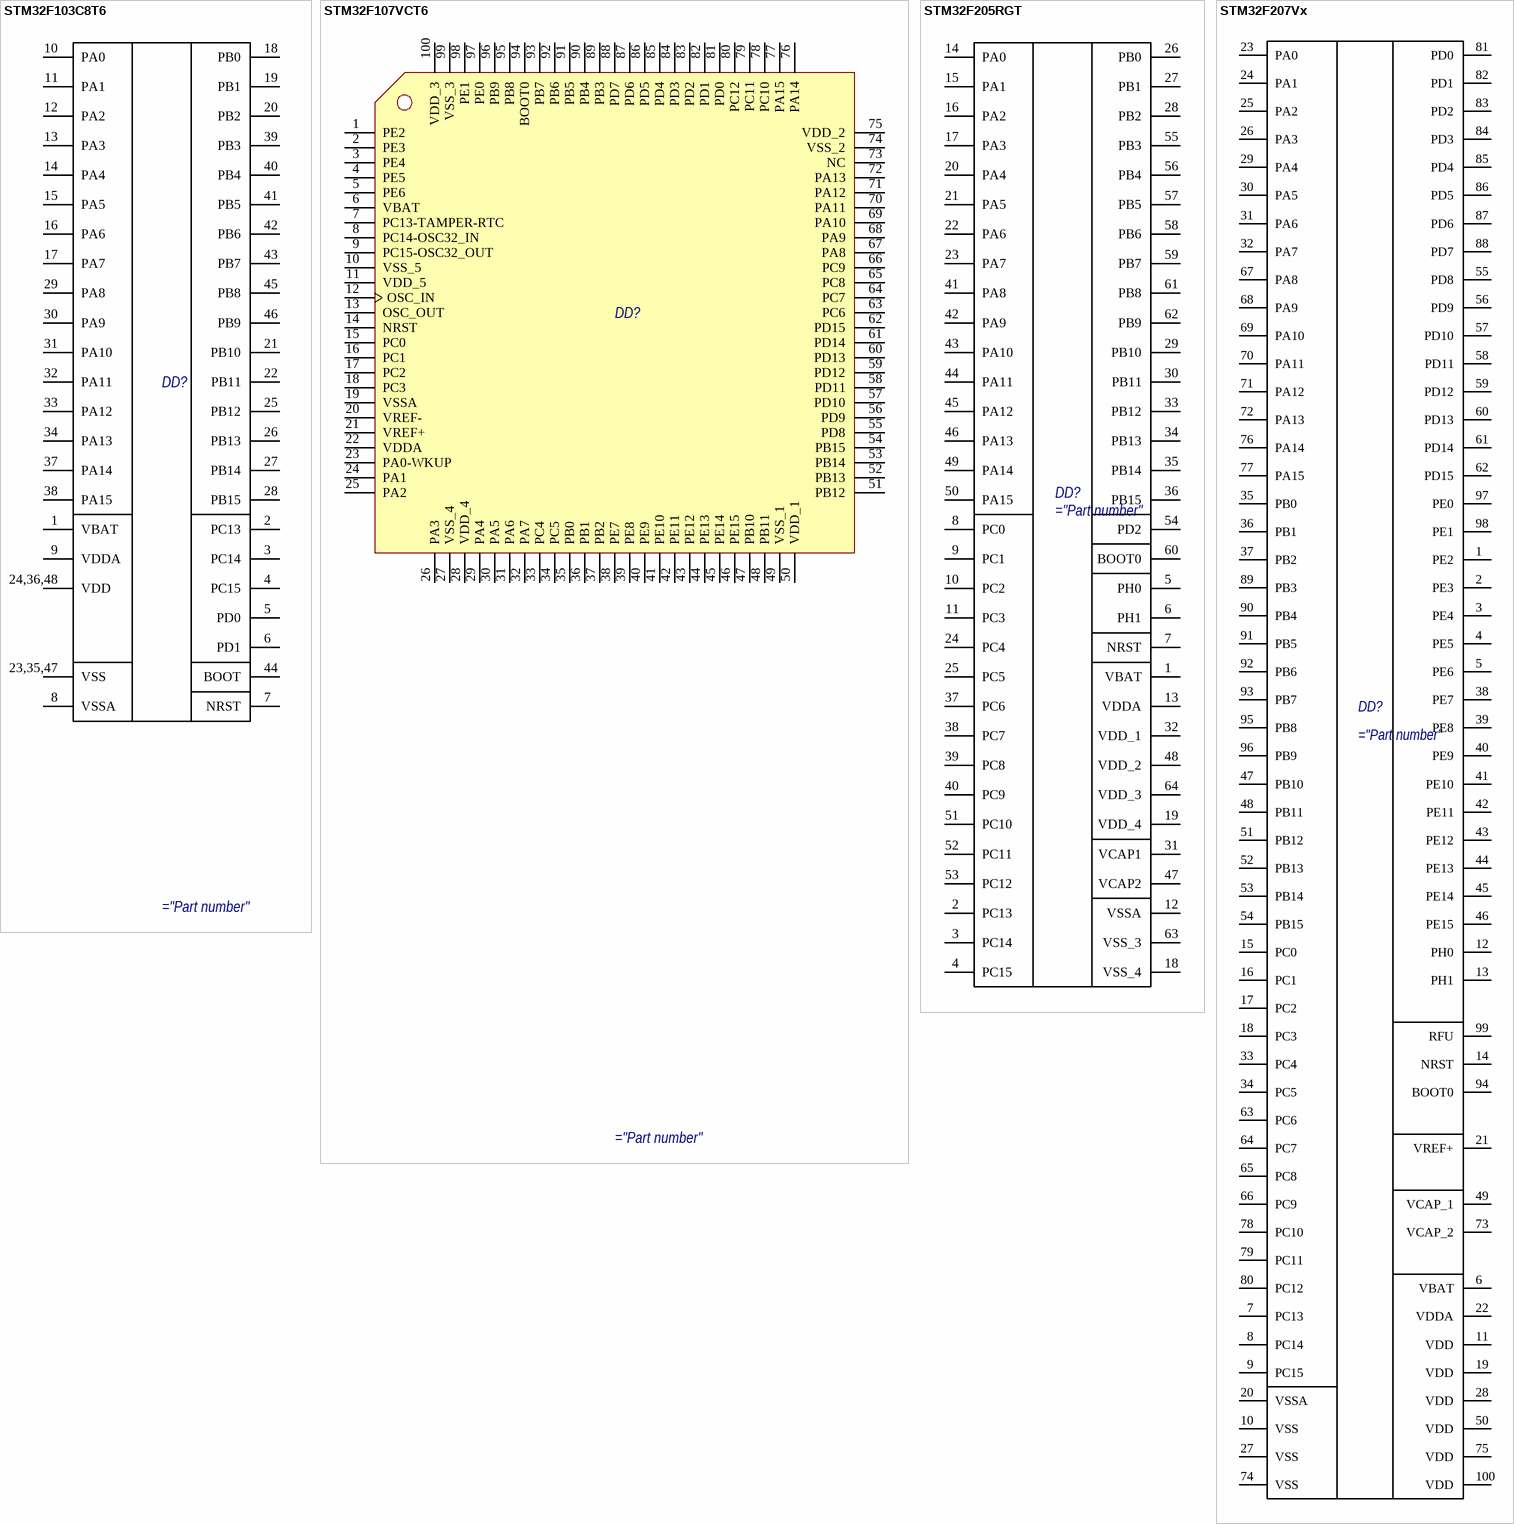
[diagram p25: symbols STM32F103C8T6 to STM32F207Vx]

## STM32F103C8T6
designator DD?
pins: 1 VBAT, 2 PC13, 3 PC14, 4 PC15, 5 PD0, 6 PD1, 7 NRST, 8 VSSA, 9 VDDA, 10 PA0, 11 PA1, 12 PA2, 13 PA3, 14 PA4, 15 PA5, 16 PA6, 17 PA7, 18 PB0, 19 PB1, 20 PB2, 21 PB10, 22 PB11, 23,35,47 VSS, 24,36,48 VDD, 25 PB12, 26 PB13, 27 PB14, 28 PB15, 29 PA8, 30 PA9, 31 PA10, 32 PA11, 33 PA12, 34 PA13, 37 PA14, 38 PA15, 39 PB3, 40 PB4, 41 PB5, 42 PB6, 43 PB7, 44 BOOT, 45 PB8, 46 PB9

## STM32F107VCT6
designator DD?
pins: 1 PE2, 2 PE3, 3 PE4, 4 PE5, 5 PE6, 6 VBAT, 7 PC13-TAMPER-RTC, 8 PC14-OSC32_IN, 9 PC15-OSC32_OUT, 10 VSS_5, 11 VDD_5, 12 OSC_IN, 13 OSC_OUT, 14 NRST, 15 PC0, 16 PC1, 17 PC2, 18 PC3, 19 VSSA, 20 VREF-, 21 VREF+, 22 VDDA, 23 PA0-WKUP, 24 PA1, 25 PA2, 26 PA3, 27 VSS_4, 28 VDD_4, 29 PA4, 30 PA5, 31 PA6, 32 PA7, 33 PC4, 34 PC5, 35 PB0, 36 PB1, 37 PB2, 38 PE7, 39 PE8, 40 PE9, 41 PE10, 42 PE11, 43 PE12, 44 PE13, 45 PE14, 46 PE15, 47 PB10, 48 PB11, 49 VSS_1, 50 VDD_1, 51 PB12, 52 PB13, 53 PB14, 54 PB15, 55 PD8, 56 PD9, 57 PD10, 58 PD11, 59 PD12, 60 PD13, 61 PD14, 62 PD15, 63 PC6, 64 PC7, 65 PC8, 66 PC9, 67 PA8, 68 PA9, 69 PA10, 70 PA11, 71 PA12, 72 PA13, 73 NC, 74 VSS_2, 75 VDD_2, 76 PA14, 77 PA15, 78 PC10, 79 PC11, 80 PC12, 81 PD0, 82 PD1, 83 PD2, 84 PD3, 85 PD4, 86 PD5, 87 PD6, 88 PD7, 89 PB3, 90 PB4, 91 PB5, 92 PB6, 93 PB7, 94 BOOT0, 95 PB8, 96 PB9, 97 PE0, 98 PE1, 99 VSS_3, 100 VDD_3
1 alternate drawing of the same symbol

## STM32F205RGT
designator DD?
pins: 1 VBAT, 2 PC13, 3 PC14, 4 PC15, 5 PH0, 6 PH1, 7 NRST, 8 PC0, 9 PC1, 10 PC2, 11 PC3, 12 VSSA, 13 VDDA, 14 PA0, 15 PA1, 16 PA2, 17 PA3, 18 VSS_4, 19 VDD_4, 20 PA4, 21 PA5, 22 PA6, 23 PA7, 24 PC4, 25 PC5, 26 PB0, 27 PB1, 28 PB2, 29 PB10, 30 PB11, 31 VCAP1, 32 VDD_1, 33 PB12, 34 PB13, 35 PB14, 36 PB15, 37 PC6, 38 PC7, 39 PC8, 40 PC9, 41 PA8, 42 PA9, 43 PA10, 44 PA11, 45 PA12, 46 PA13, 47 VCAP2, 48 VDD_2, 49 PA14, 50 PA15, 51 PC10, 52 PC11, 53 PC12, 54 PD2, 55 PB3, 56 PB4, 57 PB5, 58 PB6, 59 PB7, 60 BOOT0, 61 PB8, 62 PB9, 63 VSS_3, 64 VDD_3

## STM32F207Vx
designator DD?
pins: 1 PE2 "PA0-WKUP/PA0/WKUP/USART2_CTS/ADC123_IN0/TIM2_CH1_ETR/TIM5_CH1/TIM8_ETR", 2 PE3 "PA1/USART2_RTS/ADC123_IN1/TIM5_CH2/TIM2_CH2", 3 PE4 "PA2/USART2_TX/TIM5_CH3/ADC123_IN2/TIM2_CH3", 4 PE5 "PA3/USART2_RX/TIM5_CH4/ADC123_IN3/TIM2_CH4", 5 PE6 "PA4/SPI1_NSS/USART2_CK/DAC_OUT1/ADC12_IN4", 6 VBAT "PA5/SPI1_SCK/DAC_OUT2/ADC12_IN5", 7 PC13 "PA6/SPI1_MISO/TIM8_BKIN/ADC12_IN6/TIM3_CH1/TIM1_BKIN", 8 PC14 "PA7/SPI1_MOSI/TIM8_CH1N/ADC12_IN7/TIM3_CH2/TIM1_CH1N", 9 PC15 "PB0/ADC12_IN8/TIM3_CH3/TIM8_CH2N/TIM1_CH2N", 10 VSS "PB1/ADC12_IN9/TIM3_CH4/TIM8_CH3N/TIM1_CH3N", 11 VDD "PB2/BOOT1", 12 PH0 "PB10/I2C2_SCL/USART3_TX/TIM2_CH3", 13 PH1 "PB11/I2C2_SDA/USART3_RX/TIM2_CH4", 14 NRST "PB12/SPI2_NSS/I2S2_WS/I2C2_SMBA/USART3_CK/TIM1_BKIN", 15 PC0 "PB13/SPI2_SCK/I2S2_CK/USART3_CTS/TIM1_CH1N", 16 PC1 "PB14/SPI2_MISO/TIM1_CH2N/USART3_RTS", 17 PC2 "PB15/SPI2_MOSI/I2S2_SD/TIM1_CH3N", 18 PC3 "PA8/USART1_CK/TIM1_CH1/MCO", 19 VDD "PA9/USART1_TX/TIM1_CH2", 20 VSSA "PA10/USART1_RX/TIM1_CH3", 21 VREF+ "PA11/USART1_CTS/USBDM/CAN_RX/TIM1_CH4", 22 VDDA "PA12/USART1_RTS/USBDP/CAN_TX/TIM1_ETR", 23 PA0 "PA13/JTMS-SWDIO", 24 PA1 "PA14/JTCK-SWCLK", 25 PA2 "PA15/JTDI/SPI3_NSS/I2S3_WS/TIM2_CH1_ETR/SPI1_NSS", 26 PA3 "PB3/JTDO/SPI3_SCK/I2S3_CK/TRACESWO/TIM2_CH2/SPI1_SCK", 27 VSS "PB4/NJTRST/SPI3_MISO/TIM3_CH1/SPI1_MISO", 28 VDD "PB5/I2C1_SMBA/SPI3_MOSI/I2S3_SD/TIM3_CH2/SPI1_MOSI", 29 PA4 "PB6/I2C1_SCL/TIM4_CH1/USART1_TX", 30 PA5 "PB7/I2C1_SDA/TIM4_CH2/USART1_RX", 31 PA6 "PB8/TIM4_CH3/SDIO_D4/I2C1_SCL/CAN_RX", 32 PA7 "PB9/TIM4_CH4/SDIO_D5/I2C1_SDA/CAN_TX", 33 PC4 "PC13-TAMPER-RTC/PC13/TAMPER-RTC", 34 PC5 "PC14-OSC32_IN/PC14/OSC32_IN", 35 PB0 "PC15-OSC32_OUT/PC15/OSC32_OUT", 36 PB1 "PD0/OSC_IN/CAN_RX", 37 PB2 "PD1/OSC_OUT/CAN_TX", 38 PE7 "NRST", 39 PE8 "PC0/ADC123_IN10", 40 PE9 "PC1/ADC123_IN11", 41 PE10 "PC2/ADC123_IN12", 42 PE11 "PC3/ADC123_IN13", 43 PE12 "PC4/ADC12_IN14", 44 PE13 "PC5/ADC12_IN15", 45 PE14 "PC6/I2S2_MCK/TIM8_CH1/SDIO_D6/TIM3_CH1", 46 PE15 "PC7/I2S3_MCK/TIM8_CH2/SDIO_D7/TIM3_CH2", 47 PB10 "PC8/TIM8_CH3/SDIO_D0/TIM3_CH3", 48 PB11 "PC9/TIM8_CH4/SDIO_D1/TIM3_CH4", 49 VCAP_1 "PC10/UART4_TX/SDIO_D2/USART3_TX", 50 VDD "PC11/UART4_RX/SDIO_D3/USART3_RX", 51 PB12 "PC12/UART5_TX/SDIO_CK/USART3_CK", 52 PB13 "PD2/TIM3_ETR/UART5_RX/SDIO_CMD", 53 PB14 "BOOT0", 54 PB15 "VBAT", 55 PD8 "VSSA", 56 PD9 "VDDA", 57 PD10 "VSS", 58 PD11 "VDD_4", 59 PD12 "VSS", 60 PD13 "VDD_1", 61 PD14 "VSS", 62 PD15 "VDD_2", 63 PC6 "VSS", 64 PC7 "VDD_3", 65 PC8 "PA0-WKUP/PA0/WKUP/USART2_CTS/ADC123_IN0/TIM2_CH1_ETR/TIM5_CH1/TIM8_ETR", 66 PC9 "PA1/USART2_RTS/ADC123_IN1/TIM5_CH2/TIM2_CH2", 67 PA8 "PA2/USART2_TX/TIM5_CH3/ADC123_IN2/TIM2_CH3", 68 PA9 "PA3/USART2_RX/TIM5_CH4/ADC123_IN3/TIM2_CH4", 69 PA10 "PA4/SPI1_NSS/USART2_CK/DAC_OUT1/ADC12_IN4", 70 PA11 "PA5/SPI1_SCK/DAC_OUT2/ADC12_IN5", 71 PA12 "PA6/SPI1_MISO/TIM8_BKIN/ADC12_IN6/TIM3_CH1/TIM1_BKIN", 72 PA13 "PA7/SPI1_MOSI/TIM8_CH1N/ADC12_IN7/TIM3_CH2/TIM1_CH1N", 73 VCAP_2 "PB0/ADC12_IN8/TIM3_CH3/TIM8_CH2N/TIM1_CH2N", 74 VSS "PB1/ADC12_IN9/TIM3_CH4/TIM8_CH3N/TIM1_CH3N", 75 VDD "PB2/BOOT1", 76 PA14 "PB10/I2C2_SCL/USART3_TX/TIM2_CH3", 77 PA15 "PB11/I2C2_SDA/USART3_RX/TIM2_CH4", 78 PC10 "PB12/SPI2_NSS/I2S2_WS/I2C2_SMBA/USART3_CK/TIM1_BKIN", 79 PC11 "PB13/SPI2_SCK/I2S2_CK/USART3_CTS/TIM1_CH1N", 80 PC12 "PB14/SPI2_MISO/TIM1_CH2N/USART3_RTS", 81 PD0 "PB15/SPI2_MOSI/I2S2_SD/TIM1_CH3N", 82 PD1 "PA8/USART1_CK/TIM1_CH1/MCO", 83 PD2 "PA9/USART1_TX/TIM1_CH2", 84 PD3 "PA10/USART1_RX/TIM1_CH3", 85 PD4 "PA11/USART1_CTS/USBDM/CAN_RX/TIM1_CH4", 86 PD5 "PA12/USART1_RTS/USBDP/CAN_TX/TIM1_ETR", 87 PD6 "PA13/JTMS-SWDIO", 88 PD7 "PA14/JTCK-SWCLK", 89 PB3 "PA15/JTDI/SPI3_NSS/I2S3_WS/TIM2_CH1_ETR/SPI1_NSS", 90 PB4 "PB3/JTDO/SPI3_SCK/I2S3_CK/TRACESWO/TIM2_CH2/SPI1_SCK", 91 PB5 "PB4/NJTRST/SPI3_MISO/TIM3_CH1/SPI1_MISO", 92 PB6 "PB5/I2C1_SMBA/SPI3_MOSI/I2S3_SD/TIM3_CH2/SPI1_MOSI", 93 PB7 "PB6/I2C1_SCL/TIM4_CH1/USART1_TX", 94 BOOT0 "PB7/I2C1_SDA/TIM4_CH2/USART1_RX", 95 PB8 "PB8/TIM4_CH3/SDIO_D4/I2C1_SCL/CAN_RX", 96 PB9 "PB9/TIM4_CH4/SDIO_D5/I2C1_SDA/CAN_TX", 97 PE0 "PC13-TAMPER-RTC/PC13/TAMPER-RTC", 98 PE1 "PC14-OSC32_IN/PC14/OSC32_IN", 99 RFU "PC15-OSC32_OUT/PC15/OSC32_OUT", 100 VDD "PD0/OSC_IN/CAN_RX"

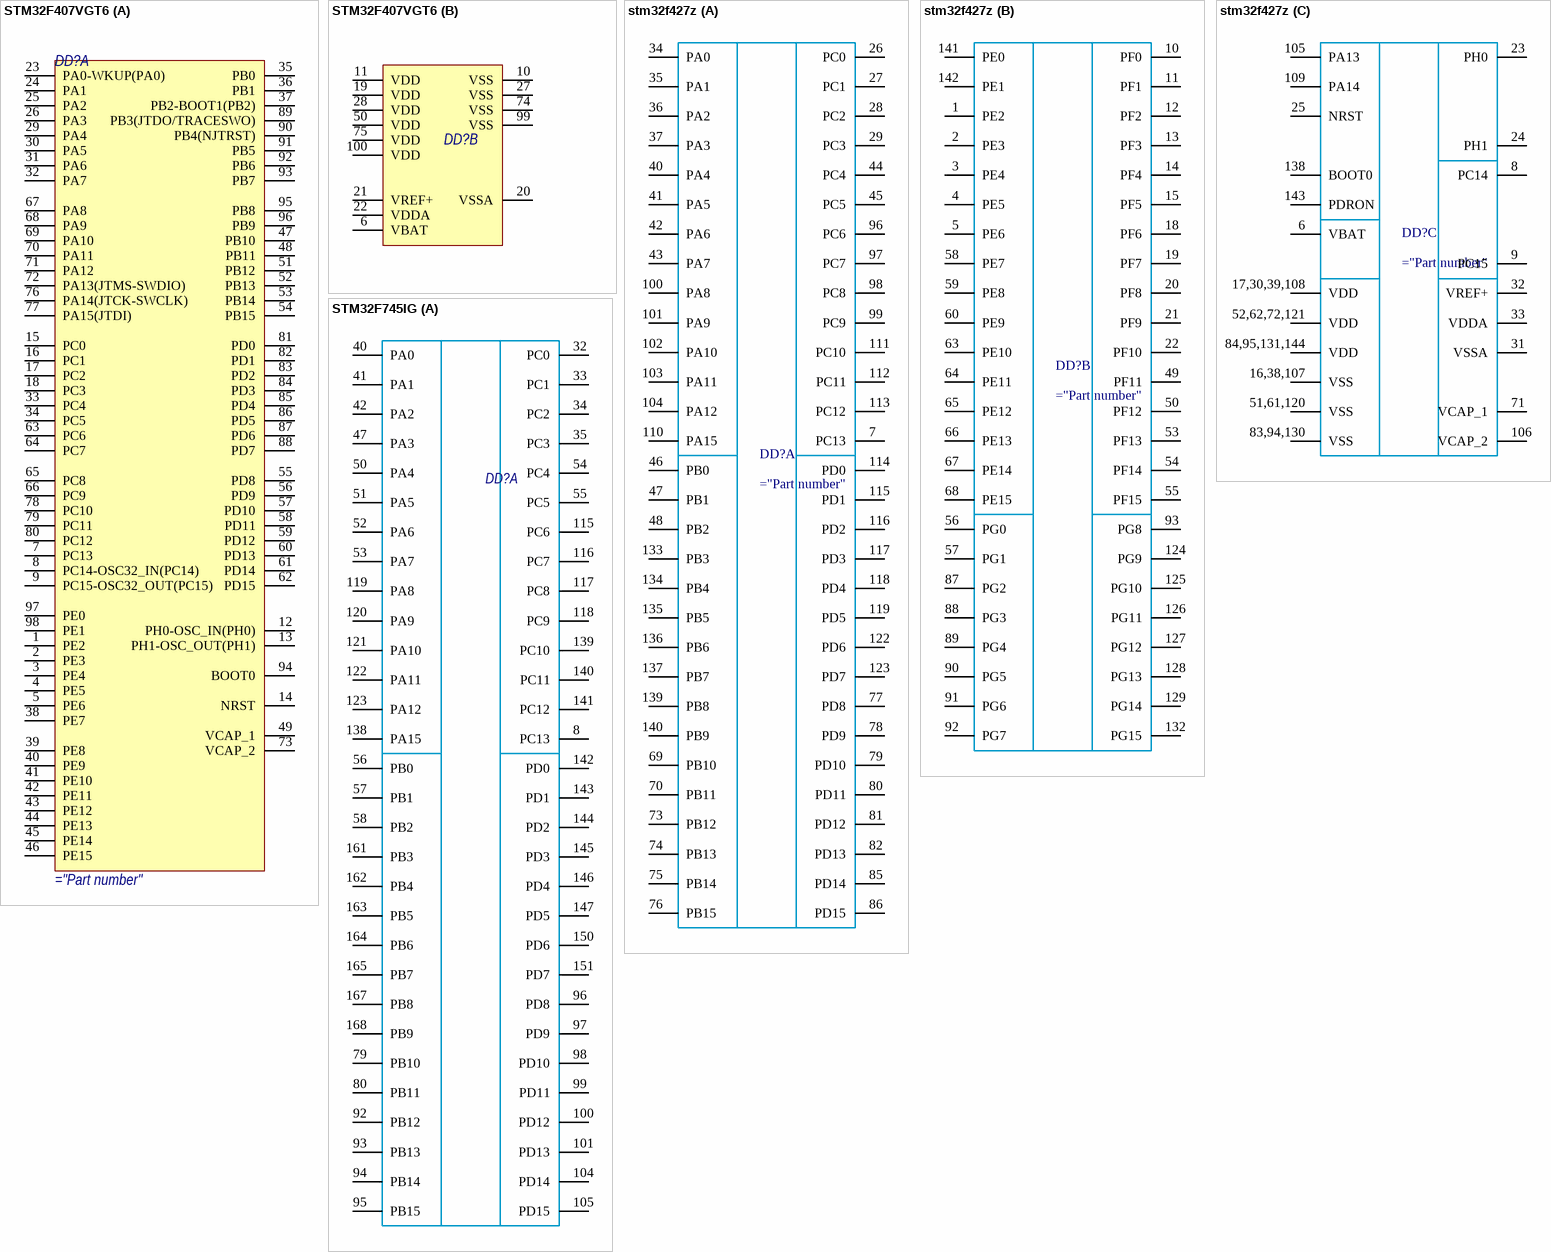
[diagram p26: symbols STM32F407VGT6 to STM32F745IG]

## STM32F407VGT6
designator DD?
part A pins: 1 PE2 "PE2/TRACECLK/FSMC_A23/ETH_MII_TXD3/EVENTOUT", 2 PE3 "PE3/TRACED0/FSMC_A19/EVENTOUT", 3 PE4 "PE4/TRACED1/FSMC_A20/DCMI_D4/EVENTOUT", 4 PE5 "PE5/TRACED2/FSMC_A21/TIM9_CH1/DCMI_D6/EVENTOUT", 5 PE6 "PE6/TRACED3/FSMC_A22/TIM9_CH2/DCMI_D7/EVENTOUT", 7 PC13 "PC13/EVENTOUT/RTC_OUT,RTC_TAMP1,RTC_TS", 8 PC14-OSC32_IN(PC14) "PC14-OSC32_IN(PC14)/EVENTOUT/OSC32_IN", 9 PC15-OSC32_OUT(PC15) "PC15-OSC32_OUT(PC15)/EVENTOUT/OSC32_OUT", 12 PH0-OSC_IN(PH0) "PH0-OSC_IN(PH0)/EVENTOUT/OSC_IN", 13 PH1-OSC_OUT(PH1) "PH1-OSC_OUT(PH1)/EVENTOUT/OSC_OUT", 14 NRST, 15 PC0 "PC0/OTG_HS_ULPI_STP/EVENTOUT/ADC123_IN10", 16 PC1 "PC1/ETH_MDC/EVENTOUT/ADC123_IN11", 17 PC2 "PC2/SPI2_MISO/OTG_HS_ULPI_DIR/ETH_MII_TXD2/I2S2ext_SD/EVENTOUT/ADC123_IN12", 18 PC3 "PC3/SPI2_MOSI/I2S2_SD/OTG_HS_ULPI_NXT/ETH_MII_TX_CLK/EVENTOUT/ADC123_IN13", 23 PA0-WKUP(PA0) "PA0-WKUP(PA0)/USART2_CTS/UART4_TX/ETH_MII_CRS/TIM2_CH1_ETR/TIM5_CH1/TIM8_ETR/EVENTOUT/ADC123_IN0/WKUP", 24 PA1 "PA1/USART2_RTS/UART4_RX/ETH_RMII_REF_CLK/ETH_MII_RX_CLK/TIM5_CH2/TIM2_CH2/EVENTOUT/ADC123_IN1", 25 PA2 "PA2/USART2_TX/TIM5_CH3/TIM9_CH1/TIM2_CH3/ETH_MDIO/EVENTOUT/ADC123_IN2", 26 PA3 "PA3/USART2_RX/TIM5_CH4/TIM9_CH2/TIM2_CH4/OTG_HS_ULPI_D0/ETH_MII_COL/EVENTOUT/ADC123_IN3", 29 PA4 "PA4/SPI1_NSS/SPI3_NSS/USART2_CK/DCMI_HSYNC/OTG_HS_SOF/I2S3_WS/EVENTOUT/ADC12_IN4/DAC_OUT1", 30 PA5 "PA5/SPI1_SCK/OTG_HS_ULPI_CK/TIM2_CH1_ETR/TIM8_CH1N/EVENTOUT/ADC12_IN5/DAC_OUT2", 31 PA6 "PA6/SPI1_MISO/TIM8_BKIN/TIM13_CH1/DCMI_PIXCLK/TIM3_CH1/TIM1_BKIN/EVENTOUT/ADC12_IN6", 32 PA7 "PA7/SPI1_MOSI/TIM8_CH1N/TIM14_CH1/TIM3_CH2/ETH_MII_RX_DV/TIM1_CH1N/ETH_RMII_CRS_DV/EVENTOUT/ADC12_IN7", 33 PC4 "PC4/ETH_RMII_RX_D0/ETH_MII_RX_D0/EVENTOUT/ADC12_IN14", 34 PC5 "PC5/ETH_RMII_RX_D1/ETH_MII_RX_D1/EVENTOUT/ADC12_IN15", 35 PB0 "PB0/TIM3_CH3/TIM8_CH2N/OTG_HS_ULPI_D1/ETH_MII_RXD2/TIM1_CH2N/EVENTOUT/ADC12_IN8", 36 PB1 "PB1/TIM3_CH4/TIM8_CH3N/OTG_HS_ULPI_D2/ETH_MII_RXD3/TIM1_CH3N/EVENTOUT/ADC12_IN9", 37 PB2-BOOT1(PB2) "PB2-BOOT1(PB2)/EVENTOUT", 38 PE7 "PE7/FSMC_D4/TIM1_ETR/EVENTOUT", 39 PE8 "PE8/FSMC_D5/TIM1_CH1N/EVENTOUT", 40 PE9 "PE9/FSMC_D6/TIM1_CH1/EVENTOUT", 41 PE10 "PE10/FSMC_D7/TIM1_CH2N/EVENTOUT", 42 PE11 "PE11/FSMC_D8/TIM1_CH2/EVENTOUT", 43 PE12 "PE12/FSMC_D9/TIM1_CH3N/EVENTOUT", 44 PE13 "PE13/FSMC_D10/TIM1_CH3/EVENTOUT", 45 PE14 "PE14/FSMC_D11/TIM1_CH4/EVENTOUT", 46 PE15 "PE15/FSMC_D12/TIM1_BKIN/EVENTOUT", 47 PB10 "PB10/SPI2_SCK/I2S2_CK/I2C2_SCL/USART3_TX/OTG_HS_ULPI_D3/ETH_MII_RX_ER/TIM2_CH3/EVENTOUT", 48 PB11 "PB11/I2C2_SDA/USART3_RX/OTG_HS_ULPI_D4/ETH_RMII_TX_EN/ETH_MII_TX_EN/TIM2_CH4/EVENTOUT", 49 VCAP_1, 51 PB12 "PB12/SPI2_NSS/I2S2_WS/I2C2_SMBA/USART3_CK/TIM1_BKIN/CAN2_RX/OTG_HS_ULPI_D5/ETH_RMII_TXD0/ETH_MII_TXD0/OTG_HS_ID/EVENTOUT", 52 PB13 "PB13/SPI2_SCK/I2S2_CK/USART3_CTS/TIM1_CH1N/CAN2_TX/OTG_HS_ULPI_D6/ETH_RMII_TXD1/ETH_MII_TXD1/EVENTOUT/OTG_HS_VBUS", 53 PB14 "PB14/SPI2_MISO/TIM1_CH2N/TIM12_CH1/OTG_HS_DM/USART3_RTS/TIM8_CH2N/I2S2ext_SD/EVENTOUT", 54 PB15 "PB15/SPI2_MOSI/I2S2_SD/TIM1_CH3N/TIM8_CH3N/TIM12_CH2/OTG_HS_DP/EVENTOUT/RTC_REFIN", 55 PD8 "PD8/FSMC_D13/USART3_TX/EVENTOUT", 56 PD9 "PD9/FSMC_D14/USART3_RX/EVENTOUT", 57 PD10 "PD10/FSMC_D15/USART3_CK/EVENTOUT", 58 PD11 "PD11/FSMC_CLE/FSMC_A16/USART3_CTS/EVENTOUT", 59 PD12 "PD12/FSMC_ALE/FSMC_A17/TIM4_CH1/USART3_RTS/EVENTOUT", 60 PD13 "PD13/FSMC_A18/TIM4_CH2/EVENTOUT", 61 PD14 "PD14/FSMC_D0/TIM4_CH3/EVENTOUT", 62 PD15 "PD15/FSMC_D1/TIM4_CH4/EVENTOUT", 63 PC6 "PC6/I2S2_MCK/TIM8_CH1/SDIO_D6/USART6_TX/DCMI_D0/TIM3_CH1/EVENTOUT", 64 PC7 "PC7/I2S3_MCK/TIM8_CH2/SDIO_D7/USART6_RX/DCMI_D1/TIM3_CH2/EVENTOUT", 65 PC8 "PC8/TIM8_CH3/SDIO_D0/TIM3_CH3/USART6_CK/DCMI_D2/EVENTOUT", 66 PC9 "PC9/I2S_CKIN/MCO2/TIM8_CH4/SDIO_D1/I2C3_SDA/DCMI_D3/TIM3_CH4/EVENTOUT", 67 PA8 "PA8/MCO1/USART1_CK/TIM1_CH1/I2C3_SCL/OTG_FS_SOF/EVENTOUT", 68 PA9 "PA9/USART1_TX/TIM1_CH2/I2C3_SMBA/DCMI_D0/EVENTOUT/OTG_FS_VBUS", 69 PA10 "PA10/USART1_RX/TIM1_CH3/OTG_FS_ID/DCMI_D1/EVENTOUT", 70 PA11 "PA11/USART1_CTS/CAN1_RX/TIM1_CH4/OTG_FS_DM/EVENTOUT", 71 PA12 "PA12/USART1_RTS/CAN1_TX/TIM1_ETR/OTG_FS_DP/EVENTOUT", 72 PA13(JTMS-SWDIO) "PA13(JTMS-SWDIO)/JTMS-SWDIO/EVENTOUT", 73 VCAP_2, 76 PA14(JTCK-SWCLK) "PA14(JTCK-SWCLK)/JTCK-SWCLK/EVENTOUT", 77 PA15(JTDI) "PA15(JTDI)/JTDI/SPI3_NSS/I2S3_WS/TIM2_CH1_ETR/SPI1_NSS/EVENTOUT", 78 PC10 "PC10/SPI3_SCK/I2S3_CK/UART4_TX/SDIO_D2/DCMI_D8/USART3_TX/EVENTOUT", 79 PC11 "PC11/UART4_RX/SPI3_MISO/SDIO_D3/DCMI_D4/USART3_RX/I2S3ext_SD/EVENTOUT", 80 PC12 "PC12/UART5_TX/SDIO_CK/DCMI_D9/SPI3_MOSI/I2S3_SD/USART3_CK/EVENTOUT", 81 PD0 "PD0/FSMC_D2/CAN1_RX/EVENTOUT", 82 PD1 "PD1/FSMC_D3/CAN1_TX/EVENTOUT", 83 PD2 "PD2/TIM3_ETR/UART5_RX/SDIO_CMD/DCMI_D11/EVENTOUT", 84 PD3 "PD3/FSMC_CLK/USART2_CTS/EVENTOUT", 85 PD4 "PD4/FSMC_NOE/USART2_RTS/EVENTOUT", 86 PD5 "PD5/FSMC_NWE/USART2_TX/EVENTOUT", 87 PD6 "PD6/FSMC_NWAIT/USART2_RX/EVENTOUT", 88 PD7 "PD7/USART2_CK/FSMC_NE1/FSMC_NCE2/EVENTOUT", 89 PB3(JTDO/TRACESWO) "PB3(JTDO/TRACESWO)/JTDO/TRACESWO/SPI3_SCK/I2S3_CK/TIM2_CH2/SPI1_SCK/EVENTOUT", 90 PB4(NJTRST) "PB4(NJTRST)/NJTRST/SPI3_MISO/TIM3_CH1/SPI1_MISO/I2S3ext_SD/EVENTOUT", 91 PB5 "PB5/I2C1_SMBA/CAN2_RX/OTG_HS_ULPI_D7/ETH_PPS_OUT/TIM3_CH2/SPI1_MOSI/SPI3_MOSI/DCMI_D10/I2S3_SD/EVENTOUT", 92 PB6 "PB6/I2C1_SCL/TIM4_CH1/CAN2_TX/DCMI_D5/USART1_TX/EVENTOUT", 93 PB7 "PB7/I2C1_SDA/FSMC_NL/DCMI_VSYNC/USART1_RX/TIM4_CH2/EVENTOUT", 94 BOOT0 "BOOT0/VPP", 95 PB8 "PB8/TIM4_CH3/SDIO_D4/TIM10_CH1/DCMI_D6/ETH_MII_TXD3/I2C1_SCL/CAN1_RX/EVENTOUT", 96 PB9 "PB9/SPI2_NSS/I2S2_WS/TIM4_CH4/TIM11_CH1/SDIO_D5/DCMI_D7/I2C1_SDA/CAN1_TX/EVENTOUT", 97 PE0 "PE0/TIM4_ETR/FSMC_NBL0/DCMI_D2/EVENTOUT", 98 PE1 "PE1/FSMC_NBL1/DCMI_D3/EVENTOUT"
part B pins: 6 VBAT, 10 VSS, 11 VDD, 19 VDD, 20 VSSA, 21 VREF+, 22 VDDA, 27 VSS, 28 VDD, 50 VDD, 74 VSS, 75 VDD, 99 VSS, 100 VDD

## stm32f427z
designator DD?
part A pins: 7 PC13, 26 PC0, 27 PC1, 28 PC2, 29 PC3, 34 PA0, 35 PA1, 36 PA2, 37 PA3, 40 PA4, 41 PA5, 42 PA6, 43 PA7, 44 PC4, 45 PC5, 46 PB0, 47 PB1, 48 PB2, 69 PB10, 70 PB11, 73 PB12, 74 PB13, 75 PB14, 76 PB15, 77 PD8, 78 PD9, 79 PD10, 80 PD11, 81 PD12, 82 PD13, 85 PD14, 86 PD15, 96 PC6, 97 PC7, 98 PC8, 99 PC9, 100 PA8, 101 PA9, 102 PA10, 103 PA11, 104 PA12, 110 PA15, 111 PC10, 112 PC11, 113 PC12, 114 PD0, 115 PD1, 116 PD2, 117 PD3, 118 PD4, 119 PD5, 122 PD6, 123 PD7, 133 PB3, 134 PB4, 135 PB5, 136 PB6, 137 PB7, 139 PB8, 140 PB9
part B pins: 1 PE2, 2 PE3, 3 PE4, 4 PE5, 5 PE6, 10 PF0 (power), 11 PF1 (power), 12 PF2 (power), 13 PF3 (power), 14 PF4 (power), 15 PF5 (power), 18 PF6 (power), 19 PF7 (power), 20 PF8 (power), 21 PF9 (power), 22 PF10 (power), 49 PF11 (power), 50 PF12 (power), 53 PF13 (power), 54 PF14 (power), 55 PF15 (power), 56 PG0, 57 PG1, 58 PE7, 59 PE8, 60 PE9, 63 PE10, 64 PE11, 65 PE12, 66 PE13, 67 PE14, 68 PE15, 87 PG2, 88 PG3, 89 PG4, 90 PG5, 91 PG6, 92 PG7, 93 PG8, 124 PG9, 125 PG10, 126 PG11, 127 PG12, 128 PG13, 129 PG14, 132 PG15, 141 PE0, 142 PE1
part C pins: 6 VBAT, 8 PC14, 9 PC15, 16,38,107 VSS, 17,30,39,108 VDD, 23 PH0, 24 PH1, 25 NRST, 31 VSSA, 32 VREF+, 33 VDDA, 51,61,120 VSS, 52,62,72,121 VDD, 71 VCAP_1, 83,94,130 VSS, 84,95,131,144 VDD, 105 PA13, 106 VCAP_2, 109 PA14, 138 BOOT0, 143 PDRON

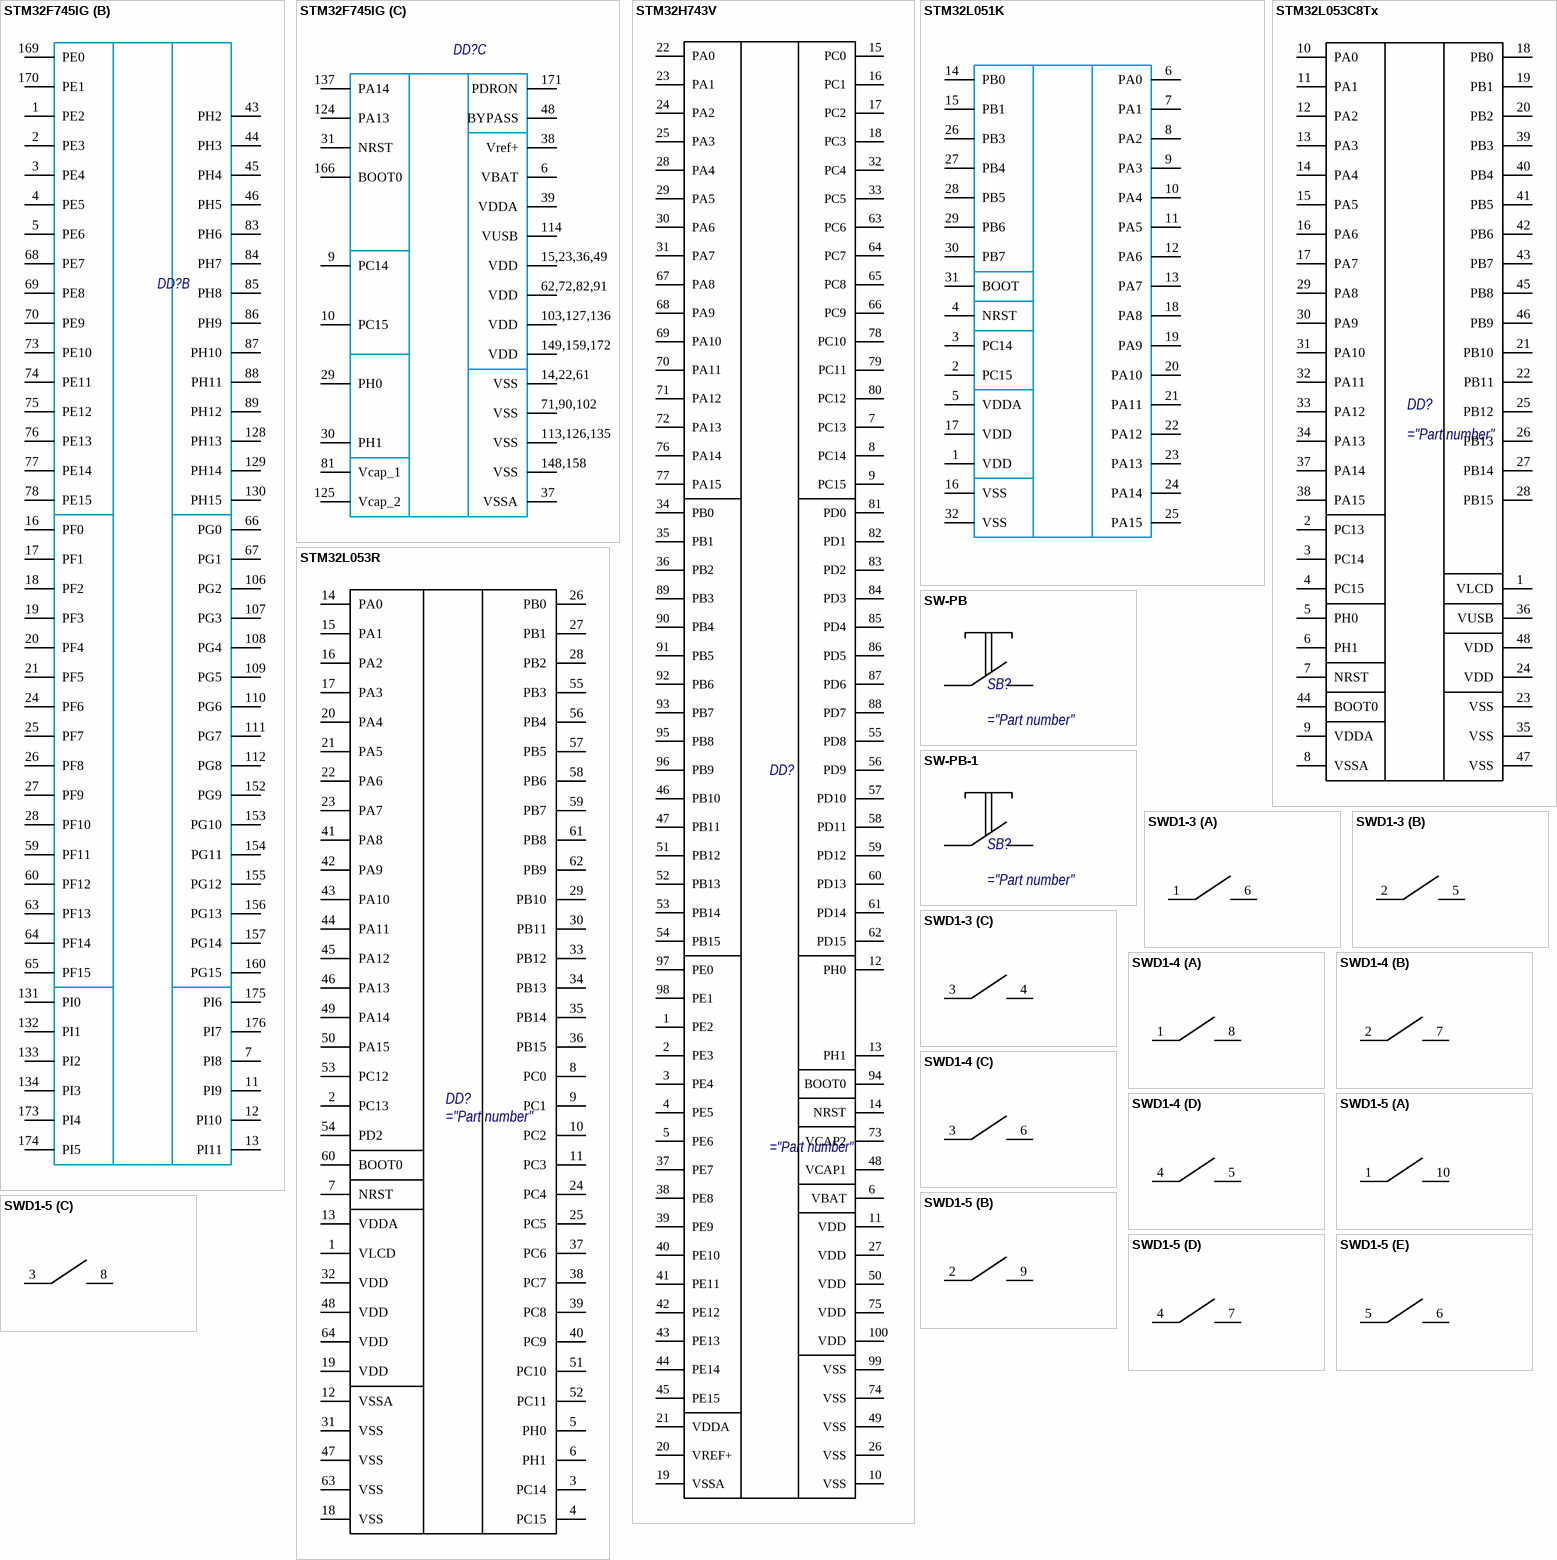
[diagram p27: symbols STM32F745IG to SWD1-5]

## STM32F745IG
designator DD?
ID: STM32F745IGT6
part A pins: 8 PC13, 32 PC0, 33 PC1, 34 PC2, 35 PC3, 40 PA0, 41 PA1, 42 PA2, 47 PA3, 50 PA4, 51 PA5, 52 PA6, 53 PA7, 54 PC4, 55 PC5, 56 PB0, 57 PB1, 58 PB2, 79 PB10, 80 PB11, 92 PB12, 93 PB13, 94 PB14, 95 PB15, 96 PD8, 97 PD9, 98 PD10, 99 PD11, 100 PD12, 101 PD13, 104 PD14, 105 PD15, 115 PC6, 116 PC7, 117 PC8, 118 PC9, 119 PA8, 120 PA9, 121 PA10, 122 PA11, 123 PA12, 138 PA15, 139 PC10, 140 PC11, 141 PC12, 142 PD0, 143 PD1, 144 PD2, 145 PD3, 146 PD4, 147 PD5, 150 PD6, 151 PD7, 161 PB3, 162 PB4, 163 PB5, 164 PB6, 165 PB7, 167 PB8, 168 PB9
part B pins: 1 PE2, 2 PE3, 3 PE4, 4 PE5, 5 PE6, 7 PI8, 11 PI9, 12 PI10, 13 PI11, 16 PF0, 17 PF1, 18 PF2, 19 PF3, 20 PF4, 21 PF5, 24 PF6, 25 PF7, 26 PF8, 27 PF9, 28 PF10, 43 PH2, 44 PH3, 45 PH4, 46 PH5, 59 PF11, 60 PF12, 63 PF13, 64 PF14, 65 PF15, 66 PG0, 67 PG1, 68 PE7, 69 PE8, 70 PE9, 73 PE10, 74 PE11, 75 PE12, 76 PE13, 77 PE14, 78 PE15, 83 PH6, 84 PH7, 85 PH8, 86 PH9, 87 PH10, 88 PH11, 89 PH12, 106 PG2, 107 PG3, 108 PG4, 109 PG5, 110 PG6, 111 PG7, 112 PG8, 128 PH13, 129 PH14, 130 PH15, 131 PI0, 132 PI1, 133 PI2, 134 PI3, 152 PG9, 153 PG10, 154 PG11, 155 PG12, 156 PG13, 157 PG14, 160 PG15, 169 PE0, 170 PE1, 173 PI4, 174 PI5, 175 PI6, 176 PI7
part C pins: 6 VBAT, 9 PC14, 10 PC15, 14,22,61 VSS, 15,23,36,49 VDD, 29 PH0, 30 PH1, 31 NRST, 37 VSSA, 38 Vref+, 39 VDDA, 48 BYPASS, 62,72,82,91 VDD, 71,90,102 VSS, 81 Vcap_1, 103,127,136 VDD, 113,126,135 VSS, 114 VUSB, 124 PA13, 125 Vcap_2, 137 PA14, 148,158 VSS, 149,159,172 VDD, 166 BOOT0, 171 PDRON
1 alternate drawing of the same symbol

## STM32H743V
designator DD?
pins: 1 PE2, 2 PE3, 3 PE4, 4 PE5, 5 PE6, 6 VBAT, 7 PC13, 8 PC14, 9 PC15, 10 VSS, 11 VDD, 12 PH0, 13 PH1, 14 NRST, 15 PC0, 16 PC1, 17 PC2, 18 PC3, 19 VSSA, 20 VREF+, 21 VDDA, 22 PA0, 23 PA1, 24 PA2, 25 PA3, 26 VSS, 27 VDD, 28 PA4, 29 PA5, 30 PA6, 31 PA7, 32 PC4, 33 PC5, 34 PB0, 35 PB1, 36 PB2, 37 PE7, 38 PE8, 39 PE9, 40 PE10, 41 PE11, 42 PE12, 43 PE13, 44 PE14, 45 PE15, 46 PB10, 47 PB11, 48 VCAP1, 49 VSS, 50 VDD, 51 PB12, 52 PB13, 53 PB14, 54 PB15, 55 PD8, 56 PD9, 57 PD10, 58 PD11, 59 PD12, 60 PD13, 61 PD14, 62 PD15, 63 PC6, 64 PC7, 65 PC8, 66 PC9, 67 PA8, 68 PA9, 69 PA10, 70 PA11, 71 PA12, 72 PA13, 73 VCAP2, 74 VSS, 75 VDD, 76 PA14, 77 PA15, 78 PC10, 79 PC11, 80 PC12, 81 PD0, 82 PD1, 83 PD2, 84 PD3, 85 PD4, 86 PD5, 87 PD6, 88 PD7, 89 PB3, 90 PB4, 91 PB5, 92 PB6, 93 PB7, 94 BOOT0, 95 PB8, 96 PB9, 97 PE0, 98 PE1, 99 VSS, 100 VDD
1 alternate drawing of the same symbol

## STM32L051K
designator DD?
pins: 1 VDD, 2 PC15, 3 PC14, 4 NRST, 5 VDDA, 6 PA0, 7 PA1, 8 PA2, 9 PA3, 10 PA4, 11 PA5, 12 PA6, 13 PA7, 14 PB0, 15 PB1, 16 VSS, 17 VDD, 18 PA8, 19 PA9, 20 PA10, 21 PA11, 22 PA12, 23 PA13, 24 PA14, 25 PA15, 26 PB3, 27 PB4, 28 PB5, 29 PB6, 30 PB7, 31 BOOT, 32 VSS

## STM32L053C8Tx
designator DD?
pins: 1 VLCD, 2 PC13, 3 PC14, 4 PC15, 5 PH0, 6 PH1, 7 NRST, 8 VSSA, 9 VDDA, 10 PA0, 11 PA1, 12 PA2, 13 PA3, 14 PA4, 15 PA5, 16 PA6, 17 PA7, 18 PB0, 19 PB1, 20 PB2, 21 PB10, 22 PB11, 23 VSS, 24 VDD, 25 PB12, 26 PB13, 27 PB14, 28 PB15, 29 PA8, 30 PA9, 31 PA10, 32 PA11, 33 PA12, 34 PA13, 35 VSS, 36 VUSB, 37 PA14, 38 PA15, 39 PB3, 40 PB4, 41 PB5, 42 PB6, 43 PB7, 44 BOOT0, 45 PB8, 46 PB9, 47 VSS, 48 VDD

## STM32L053R
designator DD?
pins: 1 VLCD "VBAT", 2 PC13 "PC13-TAMPER-RTC/PC13/TAMPER-RTC", 3 PC14 "PC14-OSC32_IN/PC14/OSC32_IN", 4 PC15 "PC15-OSC32_OUT/PC15/OSC32_OUT", 5 PH0 "PD0/OSC_IN/CAN_RX", 6 PH1 "PD1/OSC_OUT/CAN_TX", 7 NRST, 8 PC0 "PC0/ADC123_IN10", 9 PC1 "PC1/ADC123_IN11", 10 PC2 "PC2/ADC123_IN12", 11 PC3 "PC3/ADC123_IN13", 12 VSSA, 13 VDDA, 14 PA0 "PA0-WKUP/PA0/WKUP/USART2_CTS/ADC123_IN0/TIM2_CH1_ETR/TIM5_CH1/TIM8_ETR", 15 PA1 "PA1/USART2_RTS/ADC123_IN1/TIM5_CH2/TIM2_CH2", 16 PA2 "PA2/USART2_TX/TIM5_CH3/ADC123_IN2/TIM2_CH3", 17 PA3 "PA3/USART2_RX/TIM5_CH4/ADC123_IN3/TIM2_CH4", 18 VSS, 19 VDD "VDD_4", 20 PA4 "PA4/SPI1_NSS/USART2_CK/DAC_OUT1/ADC12_IN4", 21 PA5 "PA5/SPI1_SCK/DAC_OUT2/ADC12_IN5", 22 PA6 "PA6/SPI1_MISO/TIM8_BKIN/ADC12_IN6/TIM3_CH1/TIM1_BKIN", 23 PA7 "PA7/SPI1_MOSI/TIM8_CH1N/ADC12_IN7/TIM3_CH2/TIM1_CH1N", 24 PC4 "PC4/ADC12_IN14", 25 PC5 "PC5/ADC12_IN15", 26 PB0 "PB0/ADC12_IN8/TIM3_CH3/TIM8_CH2N/TIM1_CH2N", 27 PB1 "PB1/ADC12_IN9/TIM3_CH4/TIM8_CH3N/TIM1_CH3N", 28 PB2 "PB2/BOOT1", 29 PB10 "PB10/I2C2_SCL/USART3_TX/TIM2_CH3", 30 PB11 "PB11/I2C2_SDA/USART3_RX/TIM2_CH4", 31 VSS, 32 VDD "VDD_1", 33 PB12 "PB12/SPI2_NSS/I2S2_WS/I2C2_SMBA/USART3_CK/TIM1_BKIN", 34 PB13 "PB13/SPI2_SCK/I2S2_CK/USART3_CTS/TIM1_CH1N", 35 PB14 "PB14/SPI2_MISO/TIM1_CH2N/USART3_RTS", 36 PB15 "PB15/SPI2_MOSI/I2S2_SD/TIM1_CH3N", 37 PC6 "PC6/I2S2_MCK/TIM8_CH1/SDIO_D6/TIM3_CH1", 38 PC7 "PC7/I2S3_MCK/TIM8_CH2/SDIO_D7/TIM3_CH2", 39 PC8 "PC8/TIM8_CH3/SDIO_D0/TIM3_CH3", 40 PC9 "PC9/TIM8_CH4/SDIO_D1/TIM3_CH4", 41 PA8 "PA8/USART1_CK/TIM1_CH1/MCO", 42 PA9 "PA9/USART1_TX/TIM1_CH2", 43 PA10 "PA10/USART1_RX/TIM1_CH3", 44 PA11 "PA11/USART1_CTS/USBDM/CAN_RX/TIM1_CH4", 45 PA12 "PA12/USART1_RTS/USBDP/CAN_TX/TIM1_ETR", 46 PA13 "PA13/JTMS-SWDIO", 47 VSS, 48 VDD "VDD_2", 49 PA14 "PA14/JTCK-SWCLK", 50 PA15 "PA15/JTDI/SPI3_NSS/I2S3_WS/TIM2_CH1_ETR/SPI1_NSS", 51 PC10 "PC10/UART4_TX/SDIO_D2/USART3_TX", 52 PC11 "PC11/UART4_RX/SDIO_D3/USART3_RX", 53 PC12 "PC12/UART5_TX/SDIO_CK/USART3_CK", 54 PD2 "PD2/TIM3_ETR/UART5_RX/SDIO_CMD", 55 PB3 "PB3/JTDO/SPI3_SCK/I2S3_CK/TRACESWO/TIM2_CH2/SPI1_SCK", 56 PB4 "PB4/NJTRST/SPI3_MISO/TIM3_CH1/SPI1_MISO", 57 PB5 "PB5/I2C1_SMBA/SPI3_MOSI/I2S3_SD/TIM3_CH2/SPI1_MOSI", 58 PB6 "PB6/I2C1_SCL/TIM4_CH1/USART1_TX", 59 PB7 "PB7/I2C1_SDA/TIM4_CH2/USART1_RX", 60 BOOT0, 61 PB8 "PB8/TIM4_CH3/SDIO_D4/I2C1_SCL/CAN_RX", 62 PB9 "PB9/TIM4_CH4/SDIO_D5/I2C1_SDA/CAN_TX", 63 VSS, 64 VDD "VDD_3"

## SW-PB
designator SB?
pins: 1, 2

## SW-PB-1
designator SB?
pins: 1, 2

## SWD1-3
designator SA?, comment Обозначение при заказе  (value not drawn)
Описание свойств компонента
part A pins: 1, 6
part B pins: 2, 5
part C pins: 3, 4

## SWD1-4
designator SA?, comment Обозначение при заказе  (value not drawn)
Описание свойств компонента
part A pins: 1, 8
part B pins: 2, 7
part C pins: 3, 6
part D pins: 4, 5

## SWD1-5
designator SA?
Описание свойств компонента
part A pins: 1, 10
part B pins: 2, 9
part C pins: 3, 8
part D pins: 4, 7
part E pins: 5, 6

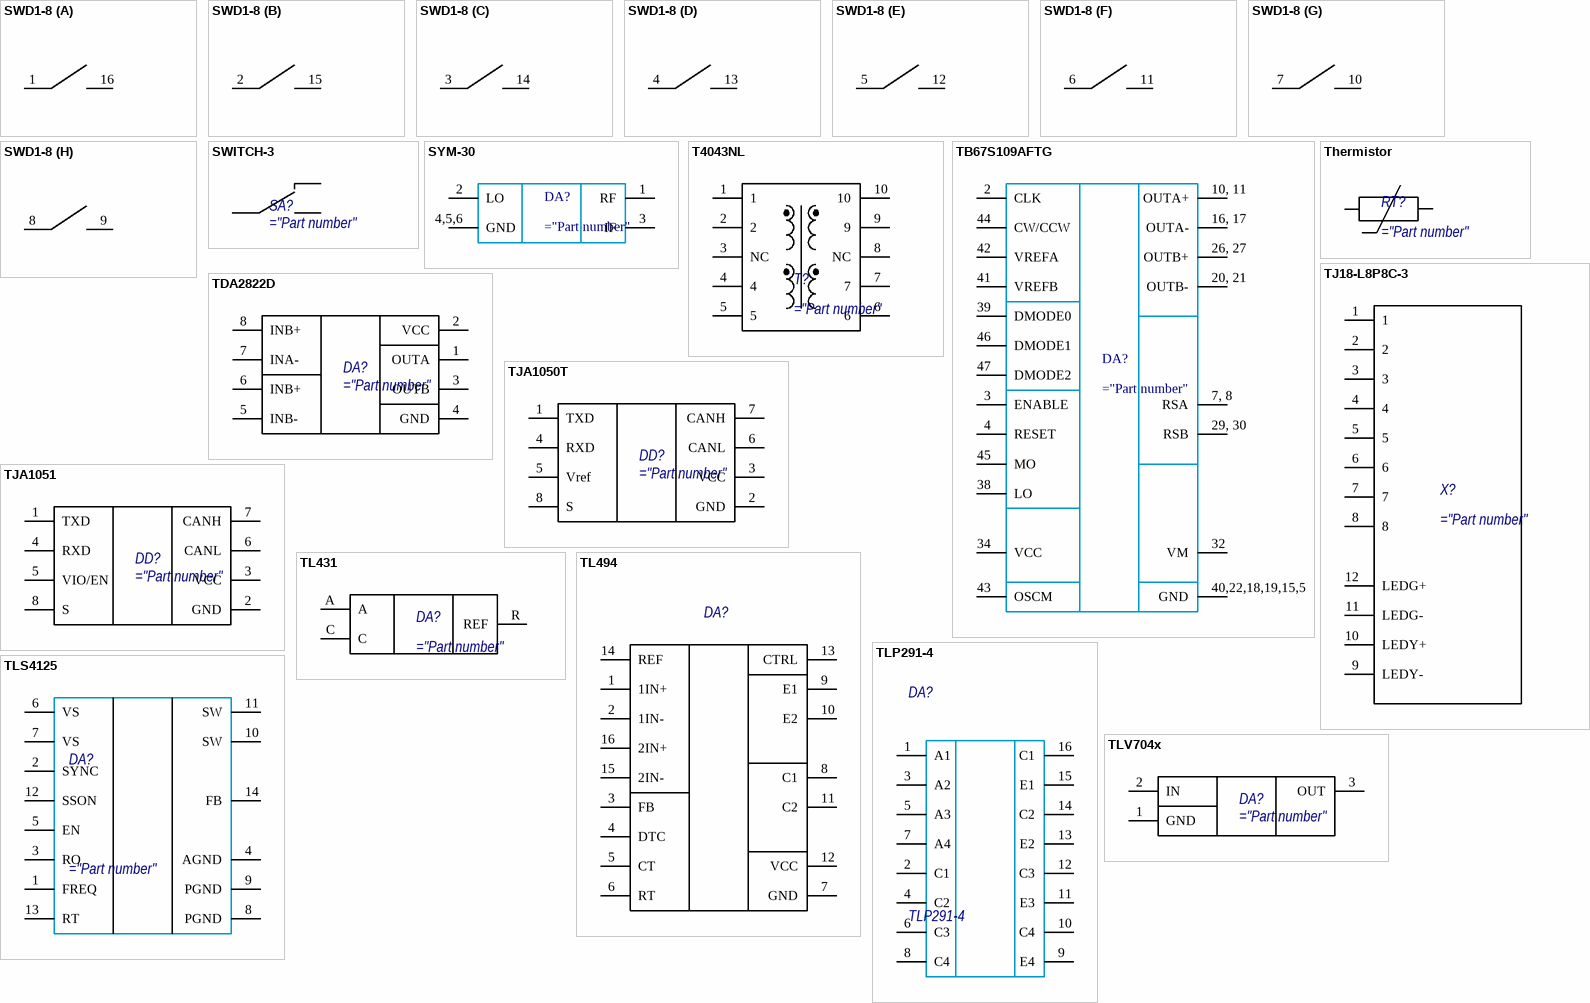
[diagram p28: symbols SWD1-8 to TLV704x]

## SWD1-8
designator SA?
Описание свойств компонента
part A pins: 1, 16
part B pins: 2, 15
part C pins: 3, 14
part D pins: 4, 13
part E pins: 5, 12
part F pins: 6, 11
part G pins: 7, 10
part H pins: 8, 9

## SWITCH-3
designator SA?
pins: 1, 2, 3

## SYM-30
designator DA?
pins: 1 RF, 2 LO, 3 IF, 4,5,6 GND

## T4043NL
designator T?
pins: 1, 2, 3 NC, 4, 5, 6, 7, 8 NC, 9, 10

## TB67S109AFTG
designator DA?
pins: 2 CLK, 3 ENABLE, 4 RESET, 7, 8 RSA, 10, 11 OUTA+, 16, 17 OUTA-, 20, 21 OUTB-, 26, 27 OUTB+, 29, 30 RSB, 32 VM, 34 VCC, 38 LO, 39 DMODE0, 40,22,18,19,15,5 GND, 41 VREFB, 42 VREFA, 43 OSCM, 44 CW/CCW, 45 MO, 46 DMODE1, 47 DMODE2

## TDA2822D
designator DA?
pins: 1 OUTA, 2 VCC, 3 OUTB, 4 GND, 5 INB-, 6 INB+, 7 INA-, 8 INB+

## Thermistor
designator RT?
pins: 1, 2

## TJ18-L8P8C-3
designator X?
pins: 1, 2, 3, 4, 5, 6, 7, 8, 9 LEDY-, 10 LEDY+, 11 LEDG-, 12 LEDG+

## TJA1050T
designator DD?
pins: 1 TXD, 2 GND, 3 VCC, 4 RXD, 5 Vref, 6 CANL, 7 CANH, 8 S

## TJA1051
designator DD?
pins: 1 TXD, 2 GND, 3 VCC, 4 RXD, 5 VIO/EN, 6 CANL, 7 CANH, 8 S

## TL431
designator DA?
pins: A, C, R REF

## TL494
designator DA?
pins: 1 1IN+, 2 1IN-, 3 FB, 4 DTC, 5 CT, 6 RT, 7 GND, 8 C1, 9 E1, 10 E2, 11 C2, 12 VCC, 13 CTRL, 14 REF, 15 2IN-, 16 2IN+

## TLP291-4
designator DA?
Manufacturer: Toshiba; Tmin: -55; Tmax: 110; Part Number: TLP291-4; Footprint Patch: ic.PcbLib; Package: SOIC-16; ComponentLink1Description: Datasheet; ComponentLink1URL: https://ru.mouser.com/datasheet/2/408/TLP291-4-1209261.pdf
footprint SO-16
pins: 1 A1, 2 C1, 3 A2, 4 C2, 5 A3, 6 C3, 7 A4, 8 C4, 9 E4, 10 C4, 11 E3, 12 C3, 13 E2, 14 C2, 15 E1, 16 C1

## TLS4125
designator DA?
pins: 1 FREQ, 2 SYNC, 3 RO, 4 AGND, 5 EN, 6 VS, 7 VS, 8 PGND, 9 PGND, 10 SW, 11 SW, 12 SSON, 13 RT, 14 FB

## TLV704x
designator DA?
pins: 1 GND, 2 IN, 3 OUT

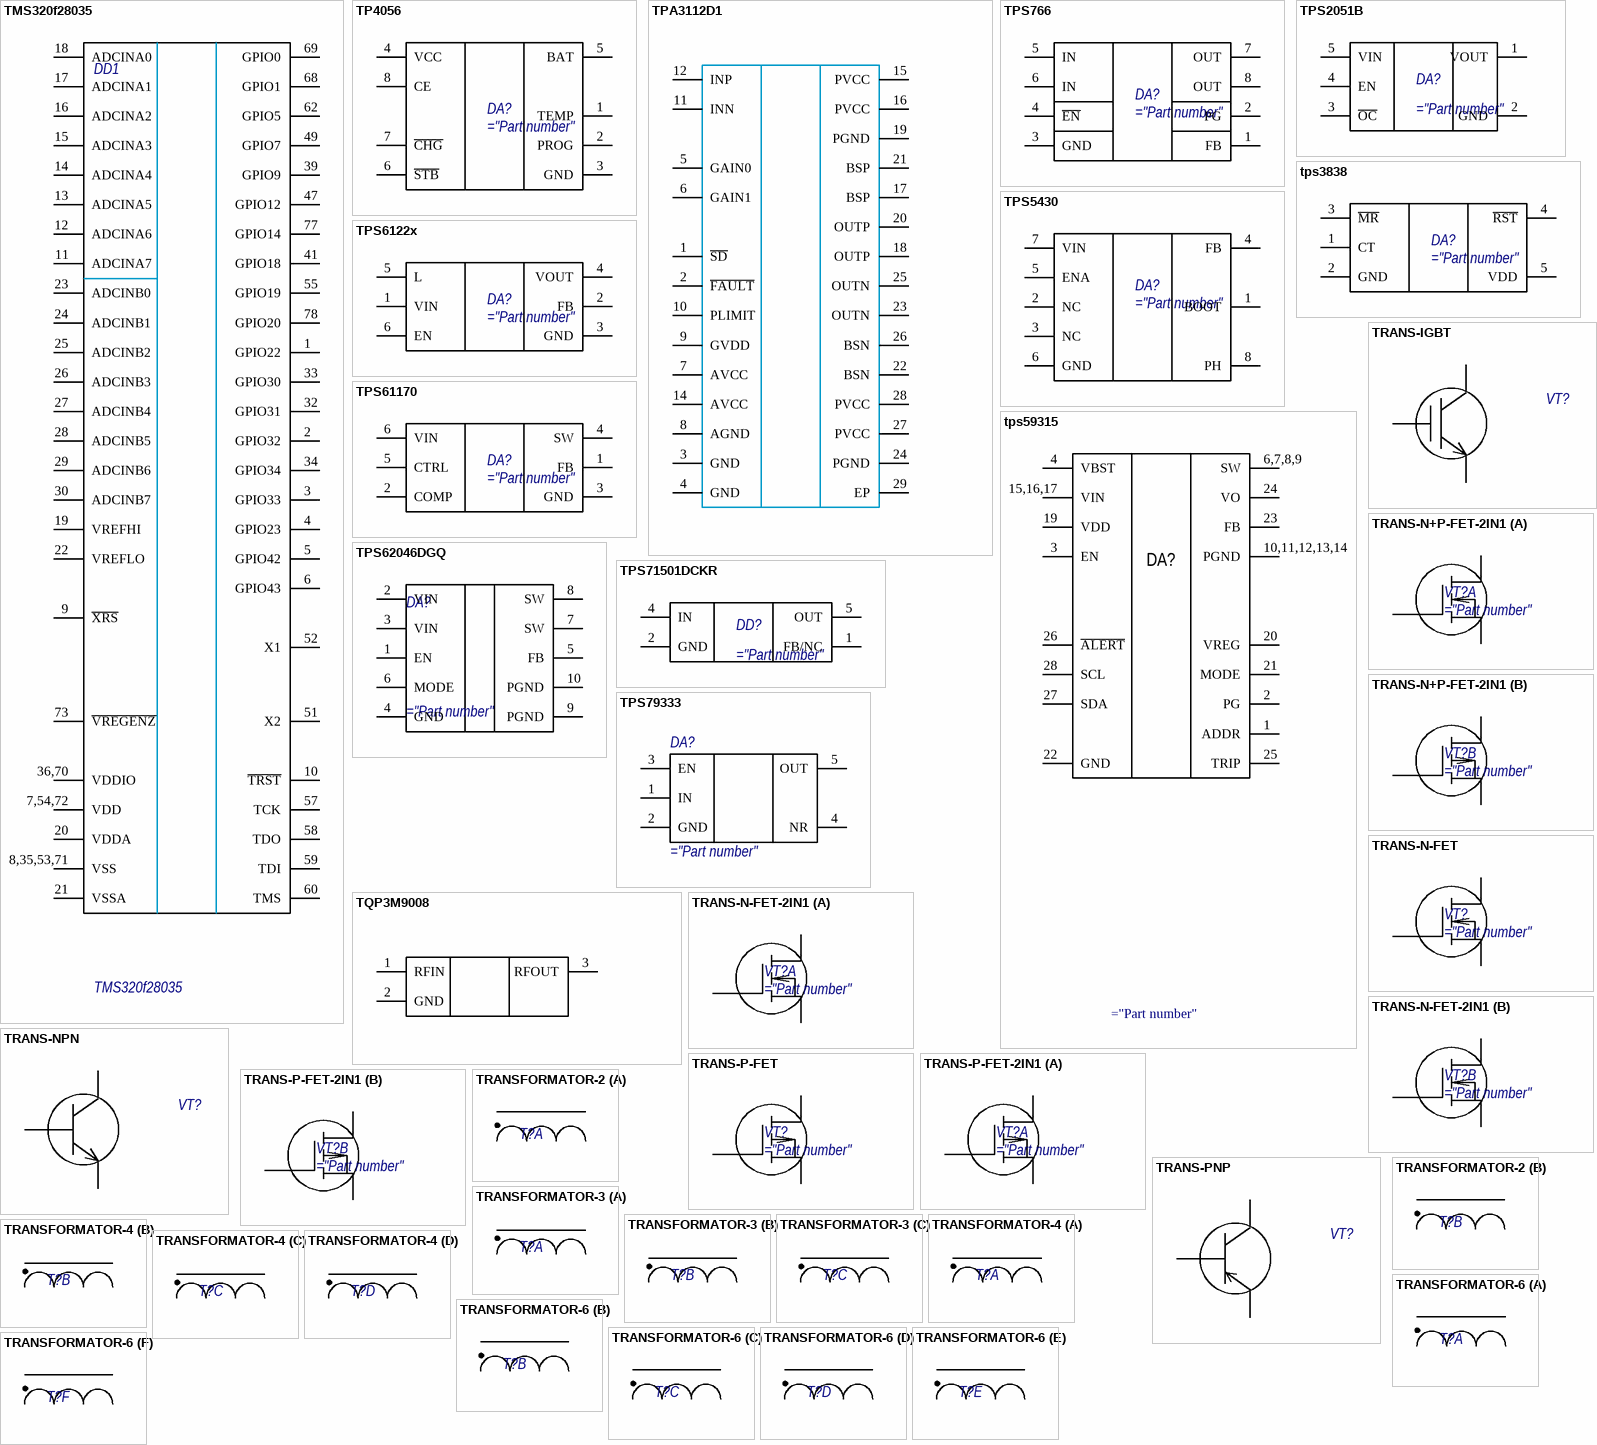
[diagram p29: symbols TMS320f28035 to TRANSFORMATOR-6]

## TMS320f28035
designator DD1
Part Number: TMS320f28035; Footprint Patch: ic.PcbLib; Package: LQFP80; ComponentLink1Description: Datasheet; ComponentLink1URL: https://www.ti.com/lit/ds/symlink/tms320f28035.pdf?ts=1630182367580
footprint LQFP80
pins: 1 GPIO22, 2 GPIO32, 3 GPIO33, 4 GPIO23, 5 GPIO42, 6 GPIO43, 7,54,72 VDD, 8,35,53,71 VSS, 9 ~{XRS}, 10 ~{TRST}, 11 ADCINA7, 12 ADCINA6, 13 ADCINA5, 14 ADCINA4, 15 ADCINA3, 16 ADCINA2, 17 ADCINA1, 18 ADCINA0, 19 VREFHI, 20 VDDA, 21 VSSA, 22 VREFLO, 23 ADCINB0, 24 ADCINB1, 25 ADCINB2, 26 ADCINB3, 27 ADCINB4, 28 ADCINB5, 29 ADCINB6, 30 ADCINB7, 32 GPIO31, 33 GPIO30, 34 GPIO34, 36,70 VDDIO, 39 GPIO9, 41 GPIO18, 47 GPIO12, 49 GPIO7, 51 X2, 52 X1, 55 GPIO19, 57 TCK, 58 TDO, 59 TDI, 60 TMS, 62 GPIO5, 68 GPIO1, 69 GPIO0, 73 ~{VREGENZ}, 77 GPIO14, 78 GPIO20

## TP4056
designator DA?
pins: 1 TEMP, 2 PROG, 3 GND, 4 VCC, 5 BAT, 6 ~{STB}, 7 ~{CHG}, 8 CE

## TPA3112D1
designator DA?
pins: 1 ~{SD}, 2 ~{FAULT}, 3 GND, 4 GND, 5 GAIN0, 6 GAIN1, 7 AVCC, 8 AGND, 9 GVDD, 10 PLIMIT, 11 INN, 12 INP, 14 AVCC, 15 PVCC, 16 PVCC, 17 BSP, 18 OUTP, 19 PGND, 20 OUTP, 21 BSP, 22 BSN, 23 OUTN, 24 PGND, 25 OUTN, 26 BSN, 27 PVCC, 28 PVCC, 29 EP

## TPS766
designator DA?
pins: 1 FB, 2 PG, 3 GND, 4 ~{EN}, 5 IN, 6 IN, 7 OUT, 8 OUT

## TPS2051B
designator DA?
pins: 1 VOUT, 2 GND, 3 ~{OC}, 4 EN, 5 VIN

## tps3838
designator DA?
pins: 1 CT, 2 GND, 3 ~{MR}, 4 ~{RST}, 5 VDD

## TPS5430
designator DA?
pins: 1 BOOT, 2 NC, 3 NC, 4 FB, 5 ENA, 6 GND, 7 VIN, 8 PH

## TPS6122x
designator DA?
pins: 1 VIN, 2 FB, 3 GND, 4 VOUT, 5 L, 6 EN

## tps59315
designator DA?
pins: 1 ADDR, 2 PG, 3 EN, 4 VBST, 5 (hiz) hidden, 6,7,8,9 SW, 10,11,12,13,14 PGND, 15,16,17 VIN, 19 VDD, 20 VREG, 21 MODE, 22 GND, 23 FB, 24 VO, 25 TRIP, 26 ~{ALERT}, 27 SDA, 28 SCL, NC 18 (hiz) hidden

## TPS61170
designator DA?
pins: 1 FB, 2 COMP, 3 GND, 4 SW, 5 CTRL, 6 VIN

## TPS62046DGQ
designator DA?
pins: 1 EN, 2 VIN, 3 VIN, 4 GND, 5 FB, 6 MODE, 7 SW, 8 SW, 9 PGND, 10 PGND

## TPS71501DCKR
designator DD?
pins: 1 FB/NC, 2 GND, 4 IN, 5 OUT

## TPS79333
designator DA?
pins: 1 IN, 2 GND, 3 EN, 4 NR, 5 OUT

## TQP3M9008
designator DA?
pins: 1 RFIN, 2 GND, 3 RFOUT

## TRANS-IGBT
designator VT?
pins: C, E, G

## TRANS-N+P-FET-2IN1
designator VT?
part A pins: D1, G1, S1
part B pins: D2, G2, S2

## TRANS-N-FET
designator VT?
pins: D, G, S

## TRANS-N-FET-2IN1
designator VT?
part A pins: D1, G1, S1
part B pins: D2, G2, S2

## TRANS-NPN
designator VT?
footprint TO-92AA-P254 (TO-92 (TO226), Pitch 2.54mm, Flat Index, 3 In-Line, Bent Leads, Body Dia. 5.3mm)
pins: B, C, E

## TRANS-P-FET
designator VT?
pins: D, G, S

## TRANS-P-FET-2IN1
designator VT?
part A pins: D1, G1, S1
part B pins: D2, G2, S2

## TRANS-PNP
designator VT?
pins: B, C, E

## TRANSFORMATOR-2
designator T?
part A pins: 1, 2
part B pins: 3, 4

## TRANSFORMATOR-3
designator T?
part A pins: 1, 2
part B pins: 3, 4
part C pins: 5, 6

## TRANSFORMATOR-4
designator T?
part A pins: 7, 8
part B pins: 1, 2
part C pins: 3, 4
part D pins: 5, 6

## TRANSFORMATOR-6
designator T?
part A pins: 1, 2
part B pins: 3, 4
part C pins: 5, 6
part D pins: 7, 8
part E pins: 9, 10
part F pins: 11, 12

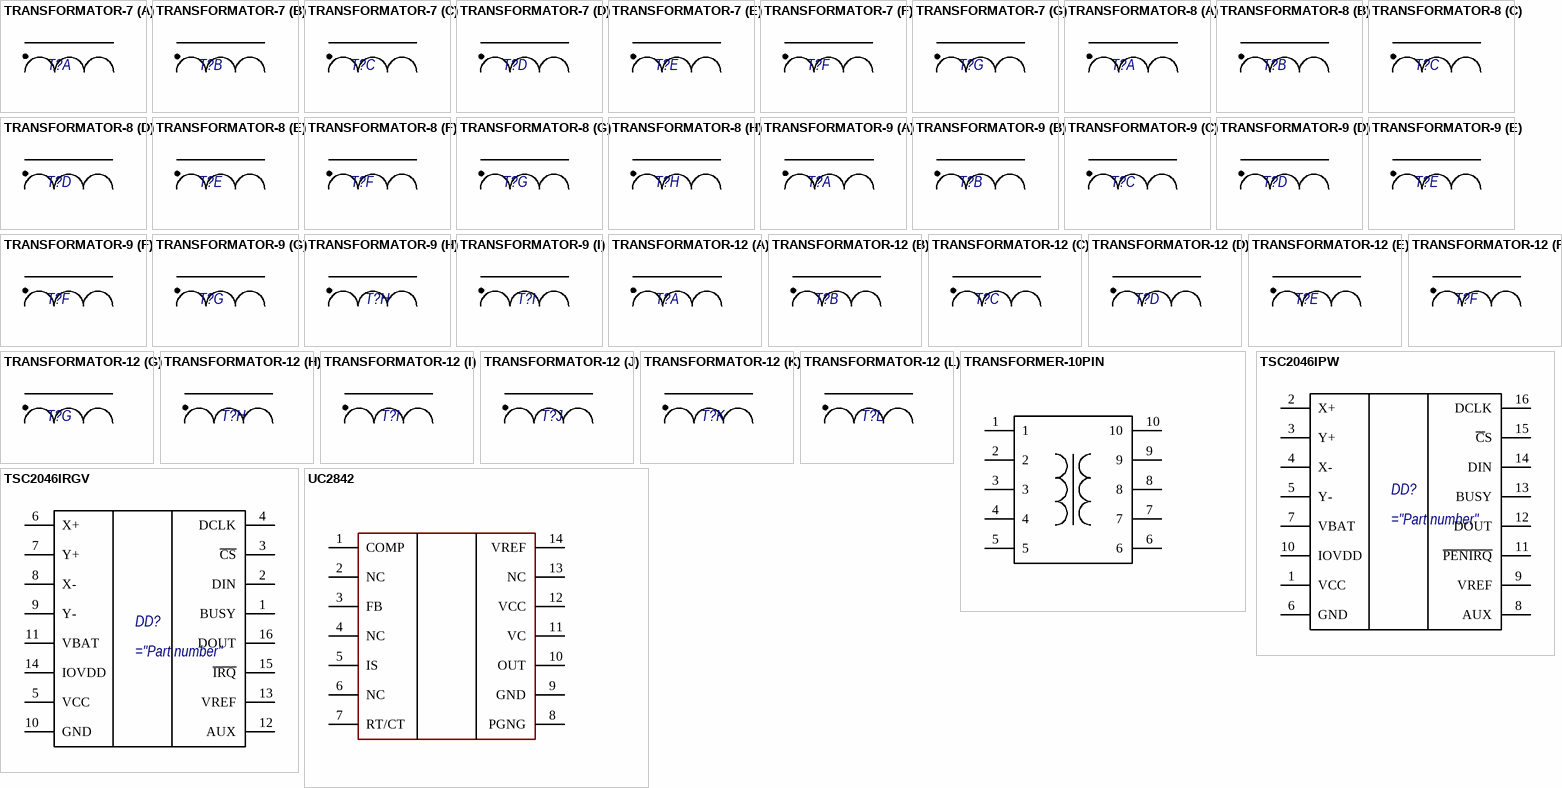
[diagram p30: symbols TRANSFORMATOR-7 to UC2842]

## TRANSFORMATOR-7
designator T?
part A pins: 1, 2
part B pins: 3, 4
part C pins: 5, 6
part D pins: 7, 8
part E pins: 9, 10
part F pins: 11, 12
part G pins: 13, 14